# Altium integrated library Renesas Microcontroller R32C.IntLib: 205 symbols (part 2 of 22)
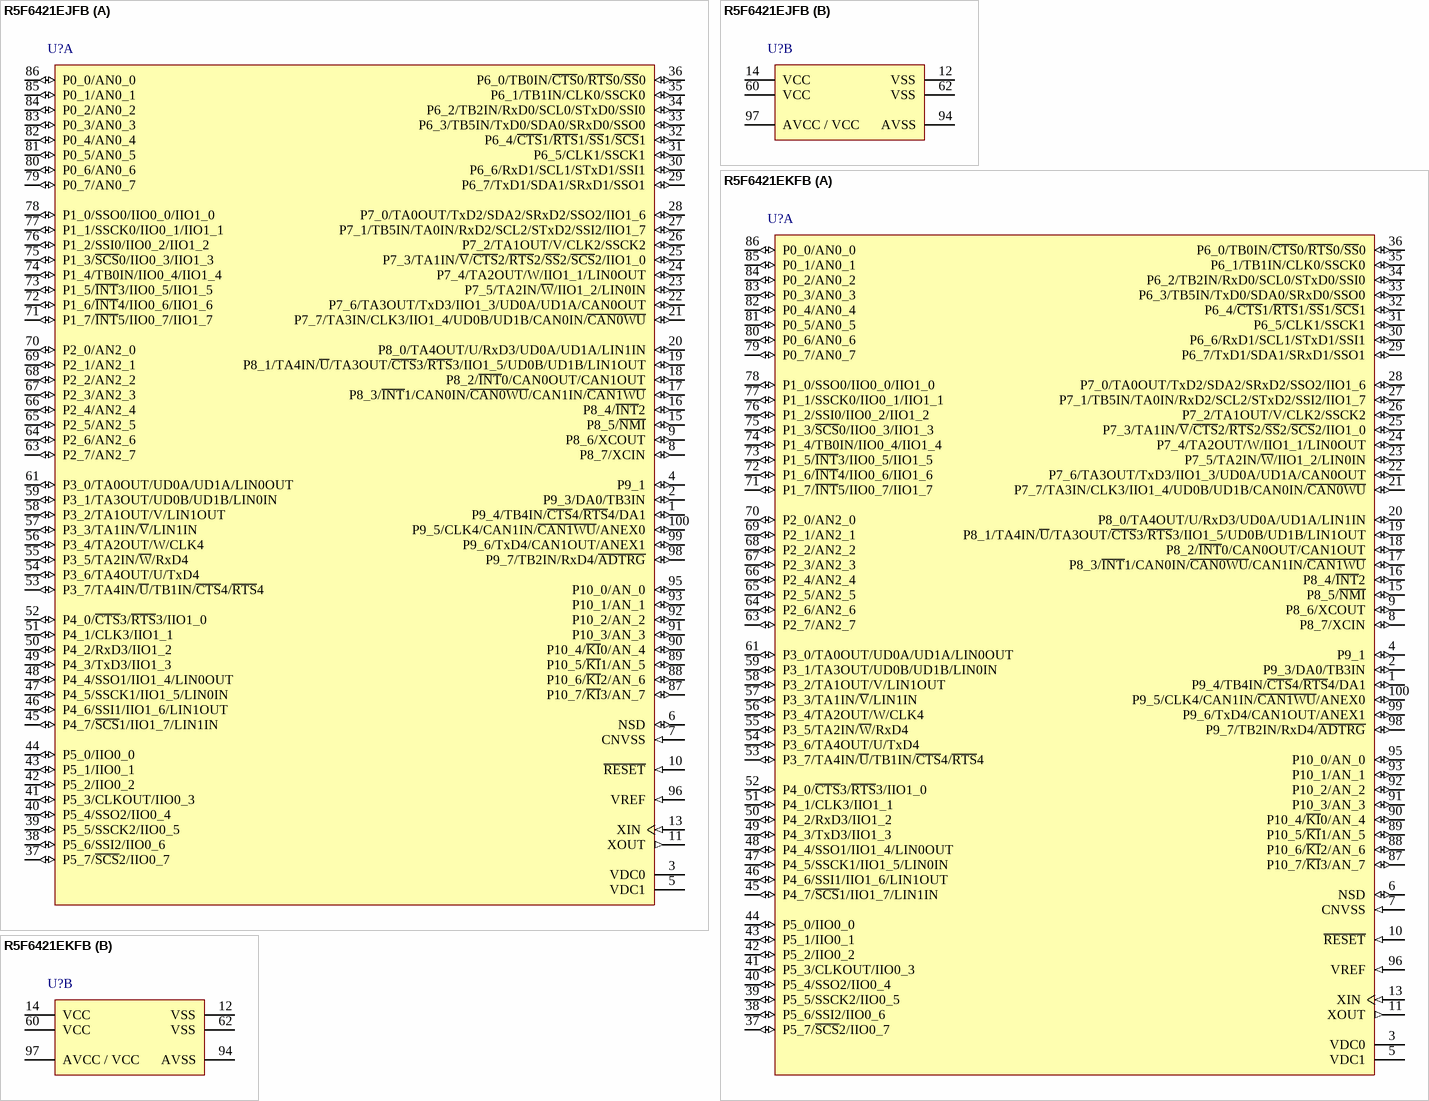
[diagram p140: symbols R5F6421EJFB to R5F6421EKFB]

## R5F6421EKFB
designator U?
Flash Memory R32C/100 Series, 121 Group MCU, 128K + 8K ROM, 12K RAM, 100-pin LQFP, Version K; Published: 28-Aug-2009; DatasheetVersion: Rev.0.50, Jul-2008; PackageVersion: Sep-2005; PackageReference: PLQP0100KB-A; Publisher: Altium Limited; PackageDescription: 100-Pin Plastic Low Profile QFP, 14 x 14 x 1.4 mm Body, 0.5 mm Pitch; Code_JEITA: P-LQFP100-14x14-0.50; Code_IPC: SQFP50P1600X1600-100; ComponentLink1Description: Manufacturer Link; ComponentLink1URL: http://sg.renesas.com/fmwk.jsp?cnt=m16c_family_landing.jsp&fp=/products/mpumcu/m16c_family/; ComponentLink2Description: Datasheet; ComponentLink2URL: http://documentation.renesas.com/eng/products/mpumcu/rej09b0477_r32c121hm.pdf; ComponentLink3Description: Packaging Specification; ComponentLink3URL: http://sg.renesas.com/media/products/common_info/package/pdf/ic/code/plqp0100kb_a.pdf
footprint PLQP0100KB-A_N (Shrink QFP, 100-Leads, Body 14x14mm, Pitch 0.5mm, IPC Medium Density)
footprint PLQP0100KB-A_L (Shrink QFP, 100-Leads, Body 14x14mm, Pitch 0.5mm, IPC High Density)
footprint PLQP0100KB-A_M (Shrink QFP, 100-Leads, Body 14x14mm, Pitch 0.5mm, IPC Low Density)
part A pins: 1 P9_4/TB4IN/~{CTS}4/~{RTS}4/DA1 (io), 2 P9_3/DA0/TB3IN (io), 3 VDC0, 4 P9_1 (io), 5 VDC1, 6 NSD (io), 7 CNVSS (in), 8 P8_7/XCIN (io), 9 P8_6/XCOUT (io), 10 ~{RESET} (in), 11 XOUT (out), 13 XIN (in), 15 P8_5/~{NMI} (io), 16 P8_4/~{INT}2 (io), 17 P8_3/~{INT}1/CAN0IN/~{CAN0WU}/CAN1IN/~{CAN1WU} (io), 18 P8_2/~{INT}0/CAN0OUT/CAN1OUT (io), 19 P8_1/TA4IN/~{U}/TA3OUT/~{CTS}3/~{RTS}3/IIO1_5/UD0B/UD1B/LIN1OUT (io), 20 P8_0/TA4OUT/U/RxD3/UD0A/UD1A/LIN1IN (io), 21 P7_7/TA3IN/CLK3/IIO1_4/UD0B/UD1B/CAN0IN/~{CAN0WU} (io), 22 P7_6/TA3OUT/TxD3/IIO1_3/UD0A/UD1A/CAN0OUT (io), 23 P7_5/TA2IN/~{W}/IIO1_2/LIN0IN (io), 24 P7_4/TA2OUT/W/IIO1_1/LIN0OUT (io), 25 P7_3/TA1IN/~{V}/~{CTS}2/~{RTS}2/~{SS}2/~{SCS}2/IIO1_0 (io), 26 P7_2/TA1OUT/V/CLK2/SSCK2 (io), 27 P7_1/TB5IN/TA0IN/RxD2/SCL2/STxD2/SSI2/IIO1_7 (io), 28 P7_0/TA0OUT/TxD2/SDA2/SRxD2/SSO2/IIO1_6 (io), 29 P6_7/TxD1/SDA1/SRxD1/SSO1 (io), 30 P6_6/RxD1/SCL1/STxD1/SSI1 (io), 31 P6_5/CLK1/SSCK1 (io), 32 P6_4/~{CTS}1/~{RTS}1/~{SS}1/~{SCS}1 (io), 33 P6_3/TB5IN/TxD0/SDA0/SRxD0/SSO0 (io), 34 P6_2/TB2IN/RxD0/SCL0/STxD0/SSI0 (io), 35 P6_1/TB1IN/CLK0/SSCK0 (io), 36 P6_0/TB0IN/~{CTS}0/~{RTS}0/~{SS}0 (io), 37 P5_7/~{SCS}2/IIO0_7 (io), 38 P5_6/SSI2/IIO0_6 (io), 39 P5_5/SSCK2/IIO0_5 (io), 40 P5_4/SSO2/IIO0_4 (io), 41 P5_3/CLKOUT/IIO0_3 (io), 42 P5_2/IIO0_2 (io), 43 P5_1/IIO0_1 (io), 44 P5_0/IIO0_0 (io), 45 P4_7/~{SCS}1/IIO1_7/LIN1IN (io), 46 P4_6/SSI1/IIO1_6/LIN1OUT (io), 47 P4_5/SSCK1/IIO1_5/LIN0IN (io), 48 P4_4/SSO1/IIO1_4/LIN0OUT (io), 49 P4_3/TxD3/IIO1_3 (io), 50 P4_2/RxD3/IIO1_2 (io), 51 P4_1/CLK3/IIO1_1 (io), 52 P4_0/~{CTS}3/~{RTS}3/IIO1_0 (io), 53 P3_7/TA4IN/~{U}/TB1IN/~{CTS}4/~{RTS}4 (io), 54 P3_6/TA4OUT/U/TxD4 (io), 55 P3_5/TA2IN/~{W}/RxD4 (io), 56 P3_4/TA2OUT/W/CLK4 (io), 57 P3_3/TA1IN/~{V}/LIN1IN (io), 58 P3_2/TA1OUT/V/LIN1OUT (io), 59 P3_1/TA3OUT/UD0B/UD1B/LIN0IN (io), 61 P3_0/TA0OUT/UD0A/UD1A/LIN0OUT (io), 63 P2_7/AN2_7 (io), 64 P2_6/AN2_6 (io), 65 P2_5/AN2_5 (io), 66 P2_4/AN2_4 (io), 67 P2_3/AN2_3 (io), 68 P2_2/AN2_2 (io), 69 P2_1/AN2_1 (io), 70 P2_0/AN2_0 (io), 71 P1_7/~{INT}5/IIO0_7/IIO1_7 (io), 72 P1_6/~{INT}4/IIO0_6/IIO1_6 (io), 73 P1_5/~{INT}3/IIO0_5/IIO1_5 (io), 74 P1_4/TB0IN/IIO0_4/IIO1_4 (io), 75 P1_3/~{SCS}0/IIO0_3/IIO1_3 (io), 76 P1_2/SSI0/IIO0_2/IIO1_2 (io), 77 P1_1/SSCK0/IIO0_1/IIO1_1 (io), 78 P1_0/SSO0/IIO0_0/IIO1_0 (io), 79 P0_7/AN0_7 (io), 80 P0_6/AN0_6 (io), 81 P0_5/AN0_5 (io), 82 P0_4/AN0_4 (io), 83 P0_3/AN0_3 (io), 84 P0_2/AN0_2 (io), 85 P0_1/AN0_1 (io), 86 P0_0/AN0_0 (io), 87 P10_7/~{KI}3/AN_7 (io), 88 P10_6/~{KI}2/AN_6 (io), 89 P10_5/~{KI}1/AN_5 (io), 90 P10_4/~{KI}0/AN_4 (io), 91 P10_3/AN_3 (io), 92 P10_2/AN_2 (io), 93 P10_1/AN_1 (io), 95 P10_0/AN_0 (io), 96 VREF (in), 98 P9_7/TB2IN/RxD4/~{ADTRG} (io), 99 P9_6/TxD4/CAN1OUT/ANEX1 (io), 100 P9_5/CLK4/CAN1IN/~{CAN1WU}/ANEX0 (io)
part B pins: 12 VSS (power), 14 VCC (power), 60 VCC (power), 62 VSS (power), 94 AVSS (power), 97 AVCC / VCC (power)

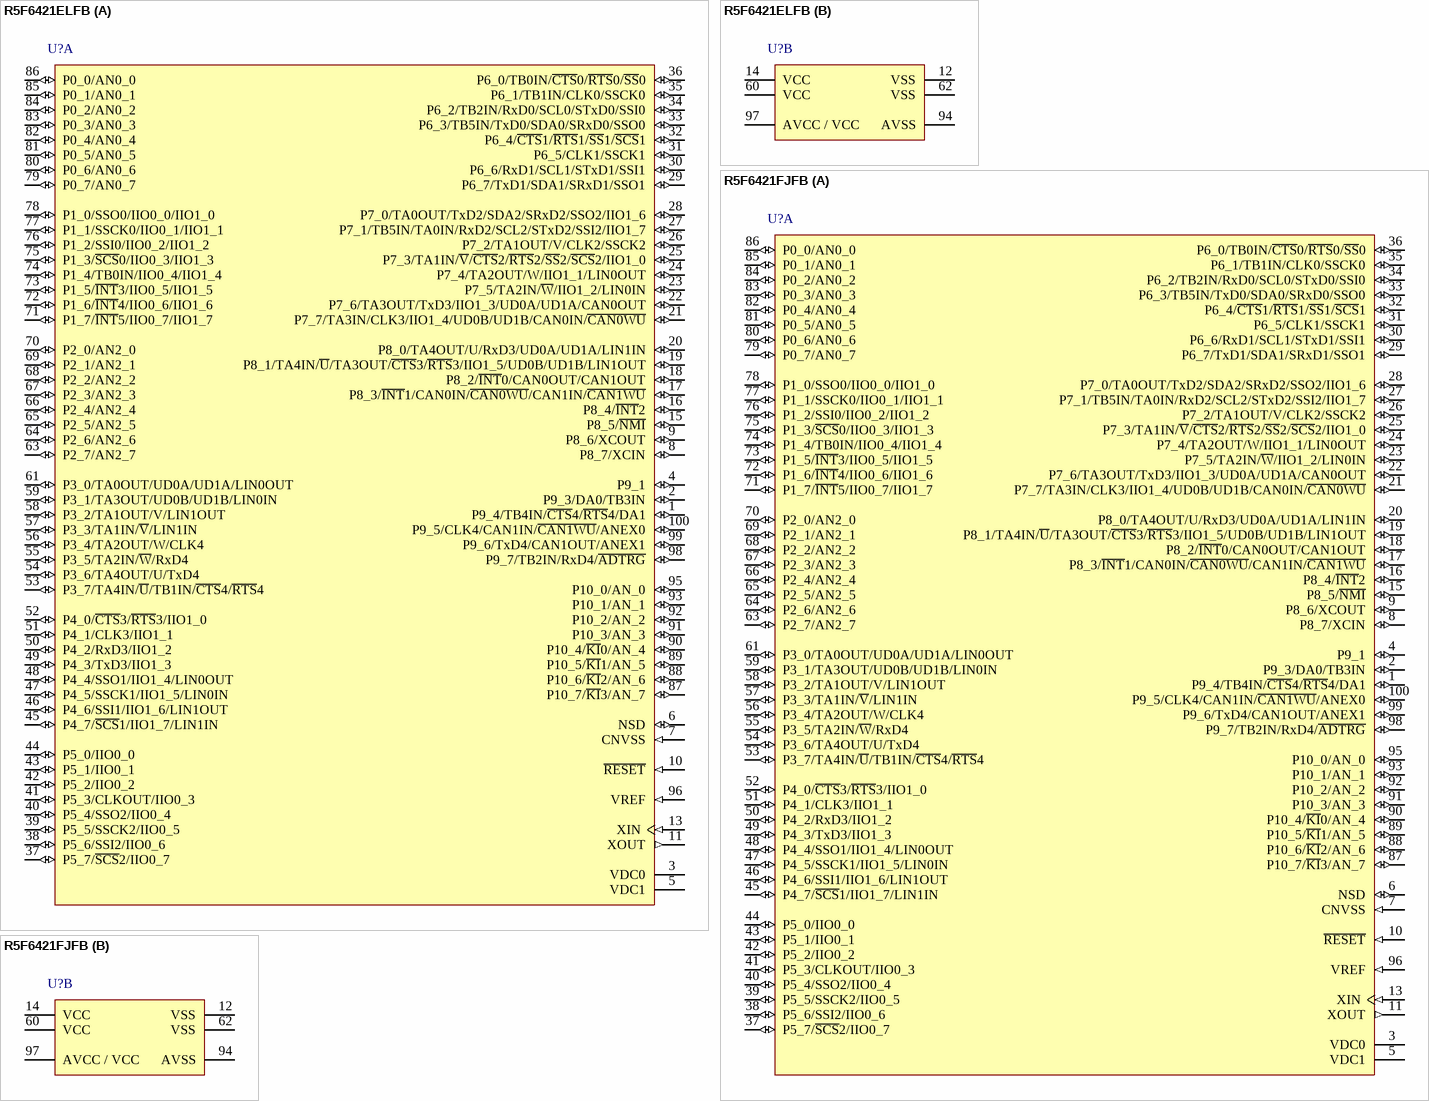
[diagram p8: symbols R5F6421ELFB to R5F6421FJFB]

## R5F6421ELFB
designator U?
Flash Memory R32C/100 Series, 121 Group MCU, 128K + 8K ROM, 12K RAM, 100-pin LQFP, Version L; Published: 28-Aug-2009; DatasheetVersion: Rev.0.50, Jul-2008; PackageVersion: Sep-2005; PackageReference: PLQP0100KB-A; Publisher: Altium Limited; PackageDescription: 100-Pin Plastic Low Profile QFP, 14 x 14 x 1.4 mm Body, 0.5 mm Pitch; Code_JEITA: P-LQFP100-14x14-0.50; Code_IPC: SQFP50P1600X1600-100; ComponentLink1Description: Manufacturer Link; ComponentLink1URL: http://sg.renesas.com/fmwk.jsp?cnt=m16c_family_landing.jsp&fp=/products/mpumcu/m16c_family/; ComponentLink2Description: Datasheet; ComponentLink2URL: http://documentation.renesas.com/eng/products/mpumcu/rej09b0477_r32c121hm.pdf; ComponentLink3Description: Packaging Specification; ComponentLink3URL: http://sg.renesas.com/media/products/common_info/package/pdf/ic/code/plqp0100kb_a.pdf
footprint PLQP0100KB-A_N (Shrink QFP, 100-Leads, Body 14x14mm, Pitch 0.5mm, IPC Medium Density)
footprint PLQP0100KB-A_L (Shrink QFP, 100-Leads, Body 14x14mm, Pitch 0.5mm, IPC High Density)
footprint PLQP0100KB-A_M (Shrink QFP, 100-Leads, Body 14x14mm, Pitch 0.5mm, IPC Low Density)
part A pins: 1 P9_4/TB4IN/~{CTS}4/~{RTS}4/DA1 (io), 2 P9_3/DA0/TB3IN (io), 3 VDC0, 4 P9_1 (io), 5 VDC1, 6 NSD (io), 7 CNVSS (in), 8 P8_7/XCIN (io), 9 P8_6/XCOUT (io), 10 ~{RESET} (in), 11 XOUT (out), 13 XIN (in), 15 P8_5/~{NMI} (io), 16 P8_4/~{INT}2 (io), 17 P8_3/~{INT}1/CAN0IN/~{CAN0WU}/CAN1IN/~{CAN1WU} (io), 18 P8_2/~{INT}0/CAN0OUT/CAN1OUT (io), 19 P8_1/TA4IN/~{U}/TA3OUT/~{CTS}3/~{RTS}3/IIO1_5/UD0B/UD1B/LIN1OUT (io), 20 P8_0/TA4OUT/U/RxD3/UD0A/UD1A/LIN1IN (io), 21 P7_7/TA3IN/CLK3/IIO1_4/UD0B/UD1B/CAN0IN/~{CAN0WU} (io), 22 P7_6/TA3OUT/TxD3/IIO1_3/UD0A/UD1A/CAN0OUT (io), 23 P7_5/TA2IN/~{W}/IIO1_2/LIN0IN (io), 24 P7_4/TA2OUT/W/IIO1_1/LIN0OUT (io), 25 P7_3/TA1IN/~{V}/~{CTS}2/~{RTS}2/~{SS}2/~{SCS}2/IIO1_0 (io), 26 P7_2/TA1OUT/V/CLK2/SSCK2 (io), 27 P7_1/TB5IN/TA0IN/RxD2/SCL2/STxD2/SSI2/IIO1_7 (io), 28 P7_0/TA0OUT/TxD2/SDA2/SRxD2/SSO2/IIO1_6 (io), 29 P6_7/TxD1/SDA1/SRxD1/SSO1 (io), 30 P6_6/RxD1/SCL1/STxD1/SSI1 (io), 31 P6_5/CLK1/SSCK1 (io), 32 P6_4/~{CTS}1/~{RTS}1/~{SS}1/~{SCS}1 (io), 33 P6_3/TB5IN/TxD0/SDA0/SRxD0/SSO0 (io), 34 P6_2/TB2IN/RxD0/SCL0/STxD0/SSI0 (io), 35 P6_1/TB1IN/CLK0/SSCK0 (io), 36 P6_0/TB0IN/~{CTS}0/~{RTS}0/~{SS}0 (io), 37 P5_7/~{SCS}2/IIO0_7 (io), 38 P5_6/SSI2/IIO0_6 (io), 39 P5_5/SSCK2/IIO0_5 (io), 40 P5_4/SSO2/IIO0_4 (io), 41 P5_3/CLKOUT/IIO0_3 (io), 42 P5_2/IIO0_2 (io), 43 P5_1/IIO0_1 (io), 44 P5_0/IIO0_0 (io), 45 P4_7/~{SCS}1/IIO1_7/LIN1IN (io), 46 P4_6/SSI1/IIO1_6/LIN1OUT (io), 47 P4_5/SSCK1/IIO1_5/LIN0IN (io), 48 P4_4/SSO1/IIO1_4/LIN0OUT (io), 49 P4_3/TxD3/IIO1_3 (io), 50 P4_2/RxD3/IIO1_2 (io), 51 P4_1/CLK3/IIO1_1 (io), 52 P4_0/~{CTS}3/~{RTS}3/IIO1_0 (io), 53 P3_7/TA4IN/~{U}/TB1IN/~{CTS}4/~{RTS}4 (io), 54 P3_6/TA4OUT/U/TxD4 (io), 55 P3_5/TA2IN/~{W}/RxD4 (io), 56 P3_4/TA2OUT/W/CLK4 (io), 57 P3_3/TA1IN/~{V}/LIN1IN (io), 58 P3_2/TA1OUT/V/LIN1OUT (io), 59 P3_1/TA3OUT/UD0B/UD1B/LIN0IN (io), 61 P3_0/TA0OUT/UD0A/UD1A/LIN0OUT (io), 63 P2_7/AN2_7 (io), 64 P2_6/AN2_6 (io), 65 P2_5/AN2_5 (io), 66 P2_4/AN2_4 (io), 67 P2_3/AN2_3 (io), 68 P2_2/AN2_2 (io), 69 P2_1/AN2_1 (io), 70 P2_0/AN2_0 (io), 71 P1_7/~{INT}5/IIO0_7/IIO1_7 (io), 72 P1_6/~{INT}4/IIO0_6/IIO1_6 (io), 73 P1_5/~{INT}3/IIO0_5/IIO1_5 (io), 74 P1_4/TB0IN/IIO0_4/IIO1_4 (io), 75 P1_3/~{SCS}0/IIO0_3/IIO1_3 (io), 76 P1_2/SSI0/IIO0_2/IIO1_2 (io), 77 P1_1/SSCK0/IIO0_1/IIO1_1 (io), 78 P1_0/SSO0/IIO0_0/IIO1_0 (io), 79 P0_7/AN0_7 (io), 80 P0_6/AN0_6 (io), 81 P0_5/AN0_5 (io), 82 P0_4/AN0_4 (io), 83 P0_3/AN0_3 (io), 84 P0_2/AN0_2 (io), 85 P0_1/AN0_1 (io), 86 P0_0/AN0_0 (io), 87 P10_7/~{KI}3/AN_7 (io), 88 P10_6/~{KI}2/AN_6 (io), 89 P10_5/~{KI}1/AN_5 (io), 90 P10_4/~{KI}0/AN_4 (io), 91 P10_3/AN_3 (io), 92 P10_2/AN_2 (io), 93 P10_1/AN_1 (io), 95 P10_0/AN_0 (io), 96 VREF (in), 98 P9_7/TB2IN/RxD4/~{ADTRG} (io), 99 P9_6/TxD4/CAN1OUT/ANEX1 (io), 100 P9_5/CLK4/CAN1IN/~{CAN1WU}/ANEX0 (io)
part B pins: 12 VSS (power), 14 VCC (power), 60 VCC (power), 62 VSS (power), 94 AVSS (power), 97 AVCC / VCC (power)

## R5F6421FJFB
designator U?
Flash Memory R32C/100 Series, 121 Group MCU, 256K + 8K ROM, 20K RAM, 100-pin LQFP, Version J; Published: 28-Aug-2009; DatasheetVersion: Rev.0.50, Jul-2008; PackageVersion: Sep-2005; PackageReference: PLQP0100KB-A; Publisher: Altium Limited; PackageDescription: 100-Pin Plastic Low Profile QFP, 14 x 14 x 1.4 mm Body, 0.5 mm Pitch; Code_JEITA: P-LQFP100-14x14-0.50; Code_IPC: SQFP50P1600X1600-100; ComponentLink1Description: Manufacturer Link; ComponentLink1URL: http://sg.renesas.com/fmwk.jsp?cnt=m16c_family_landing.jsp&fp=/products/mpumcu/m16c_family/; ComponentLink2Description: Datasheet; ComponentLink2URL: http://documentation.renesas.com/eng/products/mpumcu/rej09b0477_r32c121hm.pdf; ComponentLink3Description: Packaging Specification; ComponentLink3URL: http://sg.renesas.com/media/products/common_info/package/pdf/ic/code/plqp0100kb_a.pdf
footprint PLQP0100KB-A_N (Shrink QFP, 100-Leads, Body 14x14mm, Pitch 0.5mm, IPC Medium Density)
footprint PLQP0100KB-A_L (Shrink QFP, 100-Leads, Body 14x14mm, Pitch 0.5mm, IPC High Density)
footprint PLQP0100KB-A_M (Shrink QFP, 100-Leads, Body 14x14mm, Pitch 0.5mm, IPC Low Density)
part A pins: 1 P9_4/TB4IN/~{CTS}4/~{RTS}4/DA1 (io), 2 P9_3/DA0/TB3IN (io), 3 VDC0, 4 P9_1 (io), 5 VDC1, 6 NSD (io), 7 CNVSS (in), 8 P8_7/XCIN (io), 9 P8_6/XCOUT (io), 10 ~{RESET} (in), 11 XOUT (out), 13 XIN (in), 15 P8_5/~{NMI} (io), 16 P8_4/~{INT}2 (io), 17 P8_3/~{INT}1/CAN0IN/~{CAN0WU}/CAN1IN/~{CAN1WU} (io), 18 P8_2/~{INT}0/CAN0OUT/CAN1OUT (io), 19 P8_1/TA4IN/~{U}/TA3OUT/~{CTS}3/~{RTS}3/IIO1_5/UD0B/UD1B/LIN1OUT (io), 20 P8_0/TA4OUT/U/RxD3/UD0A/UD1A/LIN1IN (io), 21 P7_7/TA3IN/CLK3/IIO1_4/UD0B/UD1B/CAN0IN/~{CAN0WU} (io), 22 P7_6/TA3OUT/TxD3/IIO1_3/UD0A/UD1A/CAN0OUT (io), 23 P7_5/TA2IN/~{W}/IIO1_2/LIN0IN (io), 24 P7_4/TA2OUT/W/IIO1_1/LIN0OUT (io), 25 P7_3/TA1IN/~{V}/~{CTS}2/~{RTS}2/~{SS}2/~{SCS}2/IIO1_0 (io), 26 P7_2/TA1OUT/V/CLK2/SSCK2 (io), 27 P7_1/TB5IN/TA0IN/RxD2/SCL2/STxD2/SSI2/IIO1_7 (io), 28 P7_0/TA0OUT/TxD2/SDA2/SRxD2/SSO2/IIO1_6 (io), 29 P6_7/TxD1/SDA1/SRxD1/SSO1 (io), 30 P6_6/RxD1/SCL1/STxD1/SSI1 (io), 31 P6_5/CLK1/SSCK1 (io), 32 P6_4/~{CTS}1/~{RTS}1/~{SS}1/~{SCS}1 (io), 33 P6_3/TB5IN/TxD0/SDA0/SRxD0/SSO0 (io), 34 P6_2/TB2IN/RxD0/SCL0/STxD0/SSI0 (io), 35 P6_1/TB1IN/CLK0/SSCK0 (io), 36 P6_0/TB0IN/~{CTS}0/~{RTS}0/~{SS}0 (io), 37 P5_7/~{SCS}2/IIO0_7 (io), 38 P5_6/SSI2/IIO0_6 (io), 39 P5_5/SSCK2/IIO0_5 (io), 40 P5_4/SSO2/IIO0_4 (io), 41 P5_3/CLKOUT/IIO0_3 (io), 42 P5_2/IIO0_2 (io), 43 P5_1/IIO0_1 (io), 44 P5_0/IIO0_0 (io), 45 P4_7/~{SCS}1/IIO1_7/LIN1IN (io), 46 P4_6/SSI1/IIO1_6/LIN1OUT (io), 47 P4_5/SSCK1/IIO1_5/LIN0IN (io), 48 P4_4/SSO1/IIO1_4/LIN0OUT (io), 49 P4_3/TxD3/IIO1_3 (io), 50 P4_2/RxD3/IIO1_2 (io), 51 P4_1/CLK3/IIO1_1 (io), 52 P4_0/~{CTS}3/~{RTS}3/IIO1_0 (io), 53 P3_7/TA4IN/~{U}/TB1IN/~{CTS}4/~{RTS}4 (io), 54 P3_6/TA4OUT/U/TxD4 (io), 55 P3_5/TA2IN/~{W}/RxD4 (io), 56 P3_4/TA2OUT/W/CLK4 (io), 57 P3_3/TA1IN/~{V}/LIN1IN (io), 58 P3_2/TA1OUT/V/LIN1OUT (io), 59 P3_1/TA3OUT/UD0B/UD1B/LIN0IN (io), 61 P3_0/TA0OUT/UD0A/UD1A/LIN0OUT (io), 63 P2_7/AN2_7 (io), 64 P2_6/AN2_6 (io), 65 P2_5/AN2_5 (io), 66 P2_4/AN2_4 (io), 67 P2_3/AN2_3 (io), 68 P2_2/AN2_2 (io), 69 P2_1/AN2_1 (io), 70 P2_0/AN2_0 (io), 71 P1_7/~{INT}5/IIO0_7/IIO1_7 (io), 72 P1_6/~{INT}4/IIO0_6/IIO1_6 (io), 73 P1_5/~{INT}3/IIO0_5/IIO1_5 (io), 74 P1_4/TB0IN/IIO0_4/IIO1_4 (io), 75 P1_3/~{SCS}0/IIO0_3/IIO1_3 (io), 76 P1_2/SSI0/IIO0_2/IIO1_2 (io), 77 P1_1/SSCK0/IIO0_1/IIO1_1 (io), 78 P1_0/SSO0/IIO0_0/IIO1_0 (io), 79 P0_7/AN0_7 (io), 80 P0_6/AN0_6 (io), 81 P0_5/AN0_5 (io), 82 P0_4/AN0_4 (io), 83 P0_3/AN0_3 (io), 84 P0_2/AN0_2 (io), 85 P0_1/AN0_1 (io), 86 P0_0/AN0_0 (io), 87 P10_7/~{KI}3/AN_7 (io), 88 P10_6/~{KI}2/AN_6 (io), 89 P10_5/~{KI}1/AN_5 (io), 90 P10_4/~{KI}0/AN_4 (io), 91 P10_3/AN_3 (io), 92 P10_2/AN_2 (io), 93 P10_1/AN_1 (io), 95 P10_0/AN_0 (io), 96 VREF (in), 98 P9_7/TB2IN/RxD4/~{ADTRG} (io), 99 P9_6/TxD4/CAN1OUT/ANEX1 (io), 100 P9_5/CLK4/CAN1IN/~{CAN1WU}/ANEX0 (io)
part B pins: 12 VSS (power), 14 VCC (power), 60 VCC (power), 62 VSS (power), 94 AVSS (power), 97 AVCC / VCC (power)

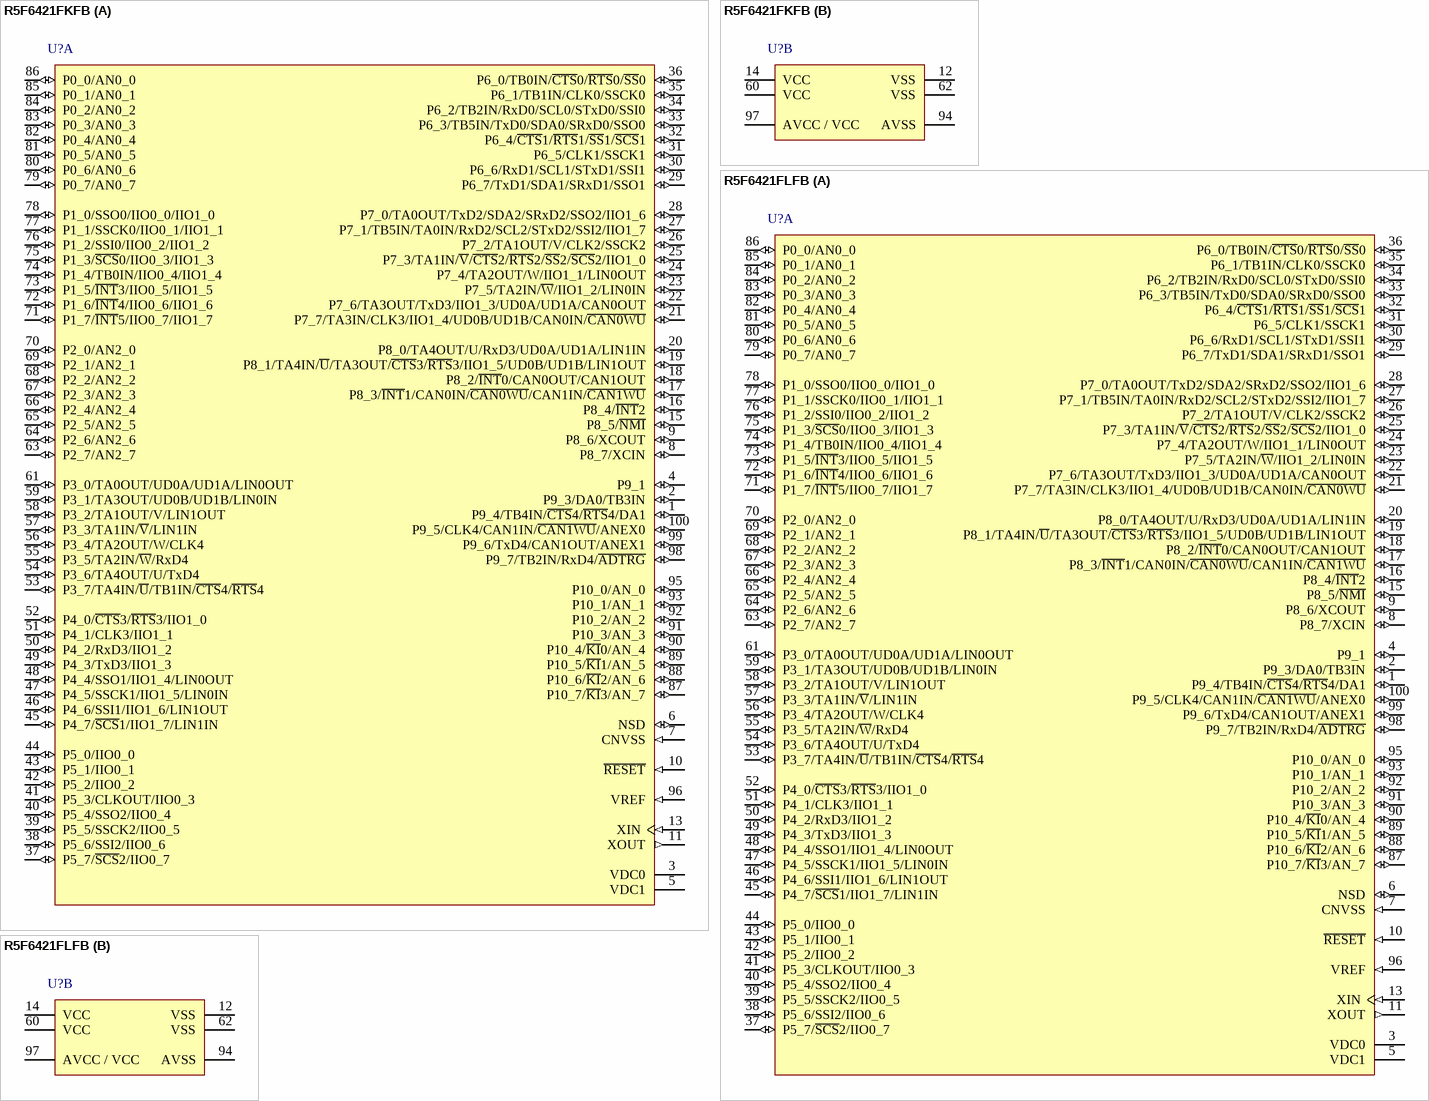
[diagram p9: symbols R5F6421FKFB to R5F6421FLFB]

## R5F6421FKFB
designator U?
Flash Memory R32C/100 Series, 121 Group MCU, 256K + 8K ROM, 20K RAM, 100-pin LQFP, Version K; Published: 28-Aug-2009; DatasheetVersion: Rev.0.50, Jul-2008; PackageVersion: Sep-2005; PackageReference: PLQP0100KB-A; Publisher: Altium Limited; PackageDescription: 100-Pin Plastic Low Profile QFP, 14 x 14 x 1.4 mm Body, 0.5 mm Pitch; Code_JEITA: P-LQFP100-14x14-0.50; Code_IPC: SQFP50P1600X1600-100; ComponentLink1Description: Manufacturer Link; ComponentLink1URL: http://sg.renesas.com/fmwk.jsp?cnt=m16c_family_landing.jsp&fp=/products/mpumcu/m16c_family/; ComponentLink2Description: Datasheet; ComponentLink2URL: http://documentation.renesas.com/eng/products/mpumcu/rej09b0477_r32c121hm.pdf; ComponentLink3Description: Packaging Specification; ComponentLink3URL: http://sg.renesas.com/media/products/common_info/package/pdf/ic/code/plqp0100kb_a.pdf
footprint PLQP0100KB-A_N (Shrink QFP, 100-Leads, Body 14x14mm, Pitch 0.5mm, IPC Medium Density)
footprint PLQP0100KB-A_L (Shrink QFP, 100-Leads, Body 14x14mm, Pitch 0.5mm, IPC High Density)
footprint PLQP0100KB-A_M (Shrink QFP, 100-Leads, Body 14x14mm, Pitch 0.5mm, IPC Low Density)
part A pins: 1 P9_4/TB4IN/~{CTS}4/~{RTS}4/DA1 (io), 2 P9_3/DA0/TB3IN (io), 3 VDC0, 4 P9_1 (io), 5 VDC1, 6 NSD (io), 7 CNVSS (in), 8 P8_7/XCIN (io), 9 P8_6/XCOUT (io), 10 ~{RESET} (in), 11 XOUT (out), 13 XIN (in), 15 P8_5/~{NMI} (io), 16 P8_4/~{INT}2 (io), 17 P8_3/~{INT}1/CAN0IN/~{CAN0WU}/CAN1IN/~{CAN1WU} (io), 18 P8_2/~{INT}0/CAN0OUT/CAN1OUT (io), 19 P8_1/TA4IN/~{U}/TA3OUT/~{CTS}3/~{RTS}3/IIO1_5/UD0B/UD1B/LIN1OUT (io), 20 P8_0/TA4OUT/U/RxD3/UD0A/UD1A/LIN1IN (io), 21 P7_7/TA3IN/CLK3/IIO1_4/UD0B/UD1B/CAN0IN/~{CAN0WU} (io), 22 P7_6/TA3OUT/TxD3/IIO1_3/UD0A/UD1A/CAN0OUT (io), 23 P7_5/TA2IN/~{W}/IIO1_2/LIN0IN (io), 24 P7_4/TA2OUT/W/IIO1_1/LIN0OUT (io), 25 P7_3/TA1IN/~{V}/~{CTS}2/~{RTS}2/~{SS}2/~{SCS}2/IIO1_0 (io), 26 P7_2/TA1OUT/V/CLK2/SSCK2 (io), 27 P7_1/TB5IN/TA0IN/RxD2/SCL2/STxD2/SSI2/IIO1_7 (io), 28 P7_0/TA0OUT/TxD2/SDA2/SRxD2/SSO2/IIO1_6 (io), 29 P6_7/TxD1/SDA1/SRxD1/SSO1 (io), 30 P6_6/RxD1/SCL1/STxD1/SSI1 (io), 31 P6_5/CLK1/SSCK1 (io), 32 P6_4/~{CTS}1/~{RTS}1/~{SS}1/~{SCS}1 (io), 33 P6_3/TB5IN/TxD0/SDA0/SRxD0/SSO0 (io), 34 P6_2/TB2IN/RxD0/SCL0/STxD0/SSI0 (io), 35 P6_1/TB1IN/CLK0/SSCK0 (io), 36 P6_0/TB0IN/~{CTS}0/~{RTS}0/~{SS}0 (io), 37 P5_7/~{SCS}2/IIO0_7 (io), 38 P5_6/SSI2/IIO0_6 (io), 39 P5_5/SSCK2/IIO0_5 (io), 40 P5_4/SSO2/IIO0_4 (io), 41 P5_3/CLKOUT/IIO0_3 (io), 42 P5_2/IIO0_2 (io), 43 P5_1/IIO0_1 (io), 44 P5_0/IIO0_0 (io), 45 P4_7/~{SCS}1/IIO1_7/LIN1IN (io), 46 P4_6/SSI1/IIO1_6/LIN1OUT (io), 47 P4_5/SSCK1/IIO1_5/LIN0IN (io), 48 P4_4/SSO1/IIO1_4/LIN0OUT (io), 49 P4_3/TxD3/IIO1_3 (io), 50 P4_2/RxD3/IIO1_2 (io), 51 P4_1/CLK3/IIO1_1 (io), 52 P4_0/~{CTS}3/~{RTS}3/IIO1_0 (io), 53 P3_7/TA4IN/~{U}/TB1IN/~{CTS}4/~{RTS}4 (io), 54 P3_6/TA4OUT/U/TxD4 (io), 55 P3_5/TA2IN/~{W}/RxD4 (io), 56 P3_4/TA2OUT/W/CLK4 (io), 57 P3_3/TA1IN/~{V}/LIN1IN (io), 58 P3_2/TA1OUT/V/LIN1OUT (io), 59 P3_1/TA3OUT/UD0B/UD1B/LIN0IN (io), 61 P3_0/TA0OUT/UD0A/UD1A/LIN0OUT (io), 63 P2_7/AN2_7 (io), 64 P2_6/AN2_6 (io), 65 P2_5/AN2_5 (io), 66 P2_4/AN2_4 (io), 67 P2_3/AN2_3 (io), 68 P2_2/AN2_2 (io), 69 P2_1/AN2_1 (io), 70 P2_0/AN2_0 (io), 71 P1_7/~{INT}5/IIO0_7/IIO1_7 (io), 72 P1_6/~{INT}4/IIO0_6/IIO1_6 (io), 73 P1_5/~{INT}3/IIO0_5/IIO1_5 (io), 74 P1_4/TB0IN/IIO0_4/IIO1_4 (io), 75 P1_3/~{SCS}0/IIO0_3/IIO1_3 (io), 76 P1_2/SSI0/IIO0_2/IIO1_2 (io), 77 P1_1/SSCK0/IIO0_1/IIO1_1 (io), 78 P1_0/SSO0/IIO0_0/IIO1_0 (io), 79 P0_7/AN0_7 (io), 80 P0_6/AN0_6 (io), 81 P0_5/AN0_5 (io), 82 P0_4/AN0_4 (io), 83 P0_3/AN0_3 (io), 84 P0_2/AN0_2 (io), 85 P0_1/AN0_1 (io), 86 P0_0/AN0_0 (io), 87 P10_7/~{KI}3/AN_7 (io), 88 P10_6/~{KI}2/AN_6 (io), 89 P10_5/~{KI}1/AN_5 (io), 90 P10_4/~{KI}0/AN_4 (io), 91 P10_3/AN_3 (io), 92 P10_2/AN_2 (io), 93 P10_1/AN_1 (io), 95 P10_0/AN_0 (io), 96 VREF (in), 98 P9_7/TB2IN/RxD4/~{ADTRG} (io), 99 P9_6/TxD4/CAN1OUT/ANEX1 (io), 100 P9_5/CLK4/CAN1IN/~{CAN1WU}/ANEX0 (io)
part B pins: 12 VSS (power), 14 VCC (power), 60 VCC (power), 62 VSS (power), 94 AVSS (power), 97 AVCC / VCC (power)

## R5F6421FLFB
designator U?
Flash Memory R32C/100 Series, 121 Group MCU, 256K + 8K ROM, 20K RAM, 100-pin LQFP, Version L; Published: 28-Aug-2009; DatasheetVersion: Rev.0.50, Jul-2008; PackageVersion: Sep-2005; PackageReference: PLQP0100KB-A; Publisher: Altium Limited; PackageDescription: 100-Pin Plastic Low Profile QFP, 14 x 14 x 1.4 mm Body, 0.5 mm Pitch; Code_JEITA: P-LQFP100-14x14-0.50; Code_IPC: SQFP50P1600X1600-100; ComponentLink1Description: Manufacturer Link; ComponentLink1URL: http://sg.renesas.com/fmwk.jsp?cnt=m16c_family_landing.jsp&fp=/products/mpumcu/m16c_family/; ComponentLink2Description: Datasheet; ComponentLink2URL: http://documentation.renesas.com/eng/products/mpumcu/rej09b0477_r32c121hm.pdf; ComponentLink3Description: Packaging Specification; ComponentLink3URL: http://sg.renesas.com/media/products/common_info/package/pdf/ic/code/plqp0100kb_a.pdf
footprint PLQP0100KB-A_N (Shrink QFP, 100-Leads, Body 14x14mm, Pitch 0.5mm, IPC Medium Density)
footprint PLQP0100KB-A_L (Shrink QFP, 100-Leads, Body 14x14mm, Pitch 0.5mm, IPC High Density)
footprint PLQP0100KB-A_M (Shrink QFP, 100-Leads, Body 14x14mm, Pitch 0.5mm, IPC Low Density)
part A pins: 1 P9_4/TB4IN/~{CTS}4/~{RTS}4/DA1 (io), 2 P9_3/DA0/TB3IN (io), 3 VDC0, 4 P9_1 (io), 5 VDC1, 6 NSD (io), 7 CNVSS (in), 8 P8_7/XCIN (io), 9 P8_6/XCOUT (io), 10 ~{RESET} (in), 11 XOUT (out), 13 XIN (in), 15 P8_5/~{NMI} (io), 16 P8_4/~{INT}2 (io), 17 P8_3/~{INT}1/CAN0IN/~{CAN0WU}/CAN1IN/~{CAN1WU} (io), 18 P8_2/~{INT}0/CAN0OUT/CAN1OUT (io), 19 P8_1/TA4IN/~{U}/TA3OUT/~{CTS}3/~{RTS}3/IIO1_5/UD0B/UD1B/LIN1OUT (io), 20 P8_0/TA4OUT/U/RxD3/UD0A/UD1A/LIN1IN (io), 21 P7_7/TA3IN/CLK3/IIO1_4/UD0B/UD1B/CAN0IN/~{CAN0WU} (io), 22 P7_6/TA3OUT/TxD3/IIO1_3/UD0A/UD1A/CAN0OUT (io), 23 P7_5/TA2IN/~{W}/IIO1_2/LIN0IN (io), 24 P7_4/TA2OUT/W/IIO1_1/LIN0OUT (io), 25 P7_3/TA1IN/~{V}/~{CTS}2/~{RTS}2/~{SS}2/~{SCS}2/IIO1_0 (io), 26 P7_2/TA1OUT/V/CLK2/SSCK2 (io), 27 P7_1/TB5IN/TA0IN/RxD2/SCL2/STxD2/SSI2/IIO1_7 (io), 28 P7_0/TA0OUT/TxD2/SDA2/SRxD2/SSO2/IIO1_6 (io), 29 P6_7/TxD1/SDA1/SRxD1/SSO1 (io), 30 P6_6/RxD1/SCL1/STxD1/SSI1 (io), 31 P6_5/CLK1/SSCK1 (io), 32 P6_4/~{CTS}1/~{RTS}1/~{SS}1/~{SCS}1 (io), 33 P6_3/TB5IN/TxD0/SDA0/SRxD0/SSO0 (io), 34 P6_2/TB2IN/RxD0/SCL0/STxD0/SSI0 (io), 35 P6_1/TB1IN/CLK0/SSCK0 (io), 36 P6_0/TB0IN/~{CTS}0/~{RTS}0/~{SS}0 (io), 37 P5_7/~{SCS}2/IIO0_7 (io), 38 P5_6/SSI2/IIO0_6 (io), 39 P5_5/SSCK2/IIO0_5 (io), 40 P5_4/SSO2/IIO0_4 (io), 41 P5_3/CLKOUT/IIO0_3 (io), 42 P5_2/IIO0_2 (io), 43 P5_1/IIO0_1 (io), 44 P5_0/IIO0_0 (io), 45 P4_7/~{SCS}1/IIO1_7/LIN1IN (io), 46 P4_6/SSI1/IIO1_6/LIN1OUT (io), 47 P4_5/SSCK1/IIO1_5/LIN0IN (io), 48 P4_4/SSO1/IIO1_4/LIN0OUT (io), 49 P4_3/TxD3/IIO1_3 (io), 50 P4_2/RxD3/IIO1_2 (io), 51 P4_1/CLK3/IIO1_1 (io), 52 P4_0/~{CTS}3/~{RTS}3/IIO1_0 (io), 53 P3_7/TA4IN/~{U}/TB1IN/~{CTS}4/~{RTS}4 (io), 54 P3_6/TA4OUT/U/TxD4 (io), 55 P3_5/TA2IN/~{W}/RxD4 (io), 56 P3_4/TA2OUT/W/CLK4 (io), 57 P3_3/TA1IN/~{V}/LIN1IN (io), 58 P3_2/TA1OUT/V/LIN1OUT (io), 59 P3_1/TA3OUT/UD0B/UD1B/LIN0IN (io), 61 P3_0/TA0OUT/UD0A/UD1A/LIN0OUT (io), 63 P2_7/AN2_7 (io), 64 P2_6/AN2_6 (io), 65 P2_5/AN2_5 (io), 66 P2_4/AN2_4 (io), 67 P2_3/AN2_3 (io), 68 P2_2/AN2_2 (io), 69 P2_1/AN2_1 (io), 70 P2_0/AN2_0 (io), 71 P1_7/~{INT}5/IIO0_7/IIO1_7 (io), 72 P1_6/~{INT}4/IIO0_6/IIO1_6 (io), 73 P1_5/~{INT}3/IIO0_5/IIO1_5 (io), 74 P1_4/TB0IN/IIO0_4/IIO1_4 (io), 75 P1_3/~{SCS}0/IIO0_3/IIO1_3 (io), 76 P1_2/SSI0/IIO0_2/IIO1_2 (io), 77 P1_1/SSCK0/IIO0_1/IIO1_1 (io), 78 P1_0/SSO0/IIO0_0/IIO1_0 (io), 79 P0_7/AN0_7 (io), 80 P0_6/AN0_6 (io), 81 P0_5/AN0_5 (io), 82 P0_4/AN0_4 (io), 83 P0_3/AN0_3 (io), 84 P0_2/AN0_2 (io), 85 P0_1/AN0_1 (io), 86 P0_0/AN0_0 (io), 87 P10_7/~{KI}3/AN_7 (io), 88 P10_6/~{KI}2/AN_6 (io), 89 P10_5/~{KI}1/AN_5 (io), 90 P10_4/~{KI}0/AN_4 (io), 91 P10_3/AN_3 (io), 92 P10_2/AN_2 (io), 93 P10_1/AN_1 (io), 95 P10_0/AN_0 (io), 96 VREF (in), 98 P9_7/TB2IN/RxD4/~{ADTRG} (io), 99 P9_6/TxD4/CAN1OUT/ANEX1 (io), 100 P9_5/CLK4/CAN1IN/~{CAN1WU}/ANEX0 (io)
part B pins: 12 VSS (power), 14 VCC (power), 60 VCC (power), 62 VSS (power), 94 AVSS (power), 97 AVCC / VCC (power)

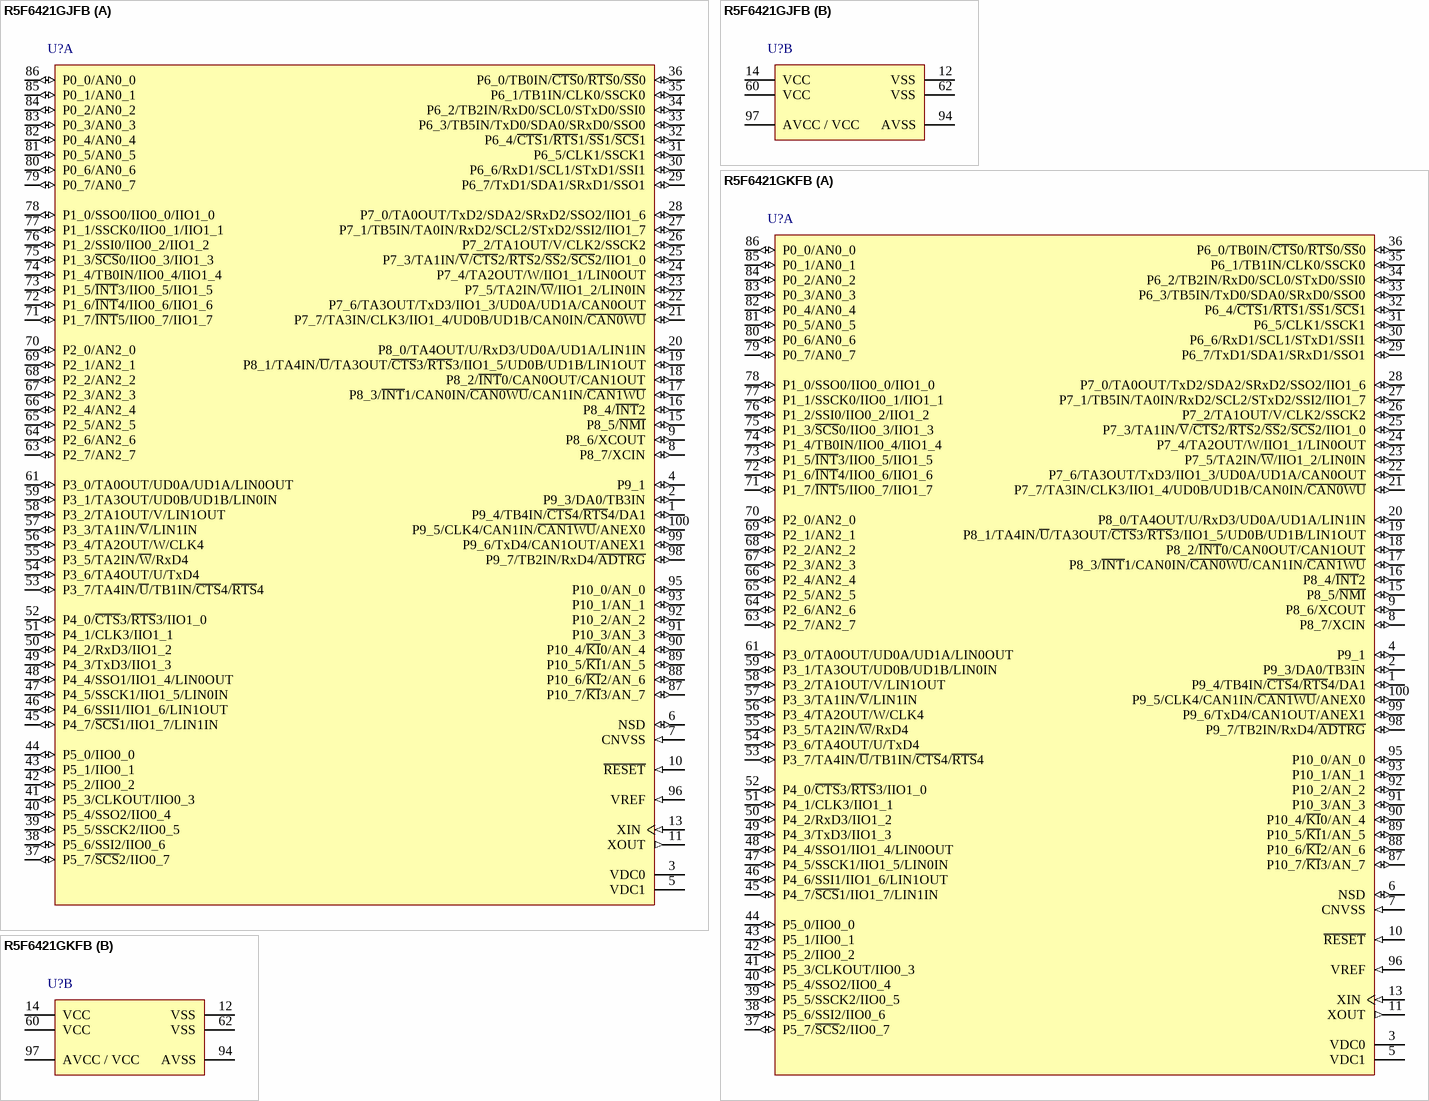
[diagram p10: symbols R5F6421GJFB to R5F6421GKFB]

## R5F6421GJFB
designator U?
Flash Memory R32C/100 Series, 121 Group MCU, 384K + 8K ROM, 24K RAM, 100-pin LQFP, Version J; Published: 28-Aug-2009; DatasheetVersion: Rev.0.50, Jul-2008; PackageVersion: Sep-2005; PackageReference: PLQP0100KB-A; Publisher: Altium Limited; PackageDescription: 100-Pin Plastic Low Profile QFP, 14 x 14 x 1.4 mm Body, 0.5 mm Pitch; Code_JEITA: P-LQFP100-14x14-0.50; Code_IPC: SQFP50P1600X1600-100; ComponentLink1Description: Manufacturer Link; ComponentLink1URL: http://sg.renesas.com/fmwk.jsp?cnt=m16c_family_landing.jsp&fp=/products/mpumcu/m16c_family/; ComponentLink2Description: Datasheet; ComponentLink2URL: http://documentation.renesas.com/eng/products/mpumcu/rej09b0477_r32c121hm.pdf; ComponentLink3Description: Packaging Specification; ComponentLink3URL: http://sg.renesas.com/media/products/common_info/package/pdf/ic/code/plqp0100kb_a.pdf
footprint PLQP0100KB-A_N (Shrink QFP, 100-Leads, Body 14x14mm, Pitch 0.5mm, IPC Medium Density)
footprint PLQP0100KB-A_L (Shrink QFP, 100-Leads, Body 14x14mm, Pitch 0.5mm, IPC High Density)
footprint PLQP0100KB-A_M (Shrink QFP, 100-Leads, Body 14x14mm, Pitch 0.5mm, IPC Low Density)
part A pins: 1 P9_4/TB4IN/~{CTS}4/~{RTS}4/DA1 (io), 2 P9_3/DA0/TB3IN (io), 3 VDC0, 4 P9_1 (io), 5 VDC1, 6 NSD (io), 7 CNVSS (in), 8 P8_7/XCIN (io), 9 P8_6/XCOUT (io), 10 ~{RESET} (in), 11 XOUT (out), 13 XIN (in), 15 P8_5/~{NMI} (io), 16 P8_4/~{INT}2 (io), 17 P8_3/~{INT}1/CAN0IN/~{CAN0WU}/CAN1IN/~{CAN1WU} (io), 18 P8_2/~{INT}0/CAN0OUT/CAN1OUT (io), 19 P8_1/TA4IN/~{U}/TA3OUT/~{CTS}3/~{RTS}3/IIO1_5/UD0B/UD1B/LIN1OUT (io), 20 P8_0/TA4OUT/U/RxD3/UD0A/UD1A/LIN1IN (io), 21 P7_7/TA3IN/CLK3/IIO1_4/UD0B/UD1B/CAN0IN/~{CAN0WU} (io), 22 P7_6/TA3OUT/TxD3/IIO1_3/UD0A/UD1A/CAN0OUT (io), 23 P7_5/TA2IN/~{W}/IIO1_2/LIN0IN (io), 24 P7_4/TA2OUT/W/IIO1_1/LIN0OUT (io), 25 P7_3/TA1IN/~{V}/~{CTS}2/~{RTS}2/~{SS}2/~{SCS}2/IIO1_0 (io), 26 P7_2/TA1OUT/V/CLK2/SSCK2 (io), 27 P7_1/TB5IN/TA0IN/RxD2/SCL2/STxD2/SSI2/IIO1_7 (io), 28 P7_0/TA0OUT/TxD2/SDA2/SRxD2/SSO2/IIO1_6 (io), 29 P6_7/TxD1/SDA1/SRxD1/SSO1 (io), 30 P6_6/RxD1/SCL1/STxD1/SSI1 (io), 31 P6_5/CLK1/SSCK1 (io), 32 P6_4/~{CTS}1/~{RTS}1/~{SS}1/~{SCS}1 (io), 33 P6_3/TB5IN/TxD0/SDA0/SRxD0/SSO0 (io), 34 P6_2/TB2IN/RxD0/SCL0/STxD0/SSI0 (io), 35 P6_1/TB1IN/CLK0/SSCK0 (io), 36 P6_0/TB0IN/~{CTS}0/~{RTS}0/~{SS}0 (io), 37 P5_7/~{SCS}2/IIO0_7 (io), 38 P5_6/SSI2/IIO0_6 (io), 39 P5_5/SSCK2/IIO0_5 (io), 40 P5_4/SSO2/IIO0_4 (io), 41 P5_3/CLKOUT/IIO0_3 (io), 42 P5_2/IIO0_2 (io), 43 P5_1/IIO0_1 (io), 44 P5_0/IIO0_0 (io), 45 P4_7/~{SCS}1/IIO1_7/LIN1IN (io), 46 P4_6/SSI1/IIO1_6/LIN1OUT (io), 47 P4_5/SSCK1/IIO1_5/LIN0IN (io), 48 P4_4/SSO1/IIO1_4/LIN0OUT (io), 49 P4_3/TxD3/IIO1_3 (io), 50 P4_2/RxD3/IIO1_2 (io), 51 P4_1/CLK3/IIO1_1 (io), 52 P4_0/~{CTS}3/~{RTS}3/IIO1_0 (io), 53 P3_7/TA4IN/~{U}/TB1IN/~{CTS}4/~{RTS}4 (io), 54 P3_6/TA4OUT/U/TxD4 (io), 55 P3_5/TA2IN/~{W}/RxD4 (io), 56 P3_4/TA2OUT/W/CLK4 (io), 57 P3_3/TA1IN/~{V}/LIN1IN (io), 58 P3_2/TA1OUT/V/LIN1OUT (io), 59 P3_1/TA3OUT/UD0B/UD1B/LIN0IN (io), 61 P3_0/TA0OUT/UD0A/UD1A/LIN0OUT (io), 63 P2_7/AN2_7 (io), 64 P2_6/AN2_6 (io), 65 P2_5/AN2_5 (io), 66 P2_4/AN2_4 (io), 67 P2_3/AN2_3 (io), 68 P2_2/AN2_2 (io), 69 P2_1/AN2_1 (io), 70 P2_0/AN2_0 (io), 71 P1_7/~{INT}5/IIO0_7/IIO1_7 (io), 72 P1_6/~{INT}4/IIO0_6/IIO1_6 (io), 73 P1_5/~{INT}3/IIO0_5/IIO1_5 (io), 74 P1_4/TB0IN/IIO0_4/IIO1_4 (io), 75 P1_3/~{SCS}0/IIO0_3/IIO1_3 (io), 76 P1_2/SSI0/IIO0_2/IIO1_2 (io), 77 P1_1/SSCK0/IIO0_1/IIO1_1 (io), 78 P1_0/SSO0/IIO0_0/IIO1_0 (io), 79 P0_7/AN0_7 (io), 80 P0_6/AN0_6 (io), 81 P0_5/AN0_5 (io), 82 P0_4/AN0_4 (io), 83 P0_3/AN0_3 (io), 84 P0_2/AN0_2 (io), 85 P0_1/AN0_1 (io), 86 P0_0/AN0_0 (io), 87 P10_7/~{KI}3/AN_7 (io), 88 P10_6/~{KI}2/AN_6 (io), 89 P10_5/~{KI}1/AN_5 (io), 90 P10_4/~{KI}0/AN_4 (io), 91 P10_3/AN_3 (io), 92 P10_2/AN_2 (io), 93 P10_1/AN_1 (io), 95 P10_0/AN_0 (io), 96 VREF (in), 98 P9_7/TB2IN/RxD4/~{ADTRG} (io), 99 P9_6/TxD4/CAN1OUT/ANEX1 (io), 100 P9_5/CLK4/CAN1IN/~{CAN1WU}/ANEX0 (io)
part B pins: 12 VSS (power), 14 VCC (power), 60 VCC (power), 62 VSS (power), 94 AVSS (power), 97 AVCC / VCC (power)

## R5F6421GKFB
designator U?
Flash Memory R32C/100 Series, 121 Group MCU, 384K + 8K ROM, 24K RAM, 100-pin LQFP, Version K; Published: 28-Aug-2009; DatasheetVersion: Rev.0.50, Jul-2008; PackageVersion: Sep-2005; PackageReference: PLQP0100KB-A; Publisher: Altium Limited; PackageDescription: 100-Pin Plastic Low Profile QFP, 14 x 14 x 1.4 mm Body, 0.5 mm Pitch; Code_JEITA: P-LQFP100-14x14-0.50; Code_IPC: SQFP50P1600X1600-100; ComponentLink1Description: Manufacturer Link; ComponentLink1URL: http://sg.renesas.com/fmwk.jsp?cnt=m16c_family_landing.jsp&fp=/products/mpumcu/m16c_family/; ComponentLink2Description: Datasheet; ComponentLink2URL: http://documentation.renesas.com/eng/products/mpumcu/rej09b0477_r32c121hm.pdf; ComponentLink3Description: Packaging Specification; ComponentLink3URL: http://sg.renesas.com/media/products/common_info/package/pdf/ic/code/plqp0100kb_a.pdf
footprint PLQP0100KB-A_N (Shrink QFP, 100-Leads, Body 14x14mm, Pitch 0.5mm, IPC Medium Density)
footprint PLQP0100KB-A_L (Shrink QFP, 100-Leads, Body 14x14mm, Pitch 0.5mm, IPC High Density)
footprint PLQP0100KB-A_M (Shrink QFP, 100-Leads, Body 14x14mm, Pitch 0.5mm, IPC Low Density)
part A pins: 1 P9_4/TB4IN/~{CTS}4/~{RTS}4/DA1 (io), 2 P9_3/DA0/TB3IN (io), 3 VDC0, 4 P9_1 (io), 5 VDC1, 6 NSD (io), 7 CNVSS (in), 8 P8_7/XCIN (io), 9 P8_6/XCOUT (io), 10 ~{RESET} (in), 11 XOUT (out), 13 XIN (in), 15 P8_5/~{NMI} (io), 16 P8_4/~{INT}2 (io), 17 P8_3/~{INT}1/CAN0IN/~{CAN0WU}/CAN1IN/~{CAN1WU} (io), 18 P8_2/~{INT}0/CAN0OUT/CAN1OUT (io), 19 P8_1/TA4IN/~{U}/TA3OUT/~{CTS}3/~{RTS}3/IIO1_5/UD0B/UD1B/LIN1OUT (io), 20 P8_0/TA4OUT/U/RxD3/UD0A/UD1A/LIN1IN (io), 21 P7_7/TA3IN/CLK3/IIO1_4/UD0B/UD1B/CAN0IN/~{CAN0WU} (io), 22 P7_6/TA3OUT/TxD3/IIO1_3/UD0A/UD1A/CAN0OUT (io), 23 P7_5/TA2IN/~{W}/IIO1_2/LIN0IN (io), 24 P7_4/TA2OUT/W/IIO1_1/LIN0OUT (io), 25 P7_3/TA1IN/~{V}/~{CTS}2/~{RTS}2/~{SS}2/~{SCS}2/IIO1_0 (io), 26 P7_2/TA1OUT/V/CLK2/SSCK2 (io), 27 P7_1/TB5IN/TA0IN/RxD2/SCL2/STxD2/SSI2/IIO1_7 (io), 28 P7_0/TA0OUT/TxD2/SDA2/SRxD2/SSO2/IIO1_6 (io), 29 P6_7/TxD1/SDA1/SRxD1/SSO1 (io), 30 P6_6/RxD1/SCL1/STxD1/SSI1 (io), 31 P6_5/CLK1/SSCK1 (io), 32 P6_4/~{CTS}1/~{RTS}1/~{SS}1/~{SCS}1 (io), 33 P6_3/TB5IN/TxD0/SDA0/SRxD0/SSO0 (io), 34 P6_2/TB2IN/RxD0/SCL0/STxD0/SSI0 (io), 35 P6_1/TB1IN/CLK0/SSCK0 (io), 36 P6_0/TB0IN/~{CTS}0/~{RTS}0/~{SS}0 (io), 37 P5_7/~{SCS}2/IIO0_7 (io), 38 P5_6/SSI2/IIO0_6 (io), 39 P5_5/SSCK2/IIO0_5 (io), 40 P5_4/SSO2/IIO0_4 (io), 41 P5_3/CLKOUT/IIO0_3 (io), 42 P5_2/IIO0_2 (io), 43 P5_1/IIO0_1 (io), 44 P5_0/IIO0_0 (io), 45 P4_7/~{SCS}1/IIO1_7/LIN1IN (io), 46 P4_6/SSI1/IIO1_6/LIN1OUT (io), 47 P4_5/SSCK1/IIO1_5/LIN0IN (io), 48 P4_4/SSO1/IIO1_4/LIN0OUT (io), 49 P4_3/TxD3/IIO1_3 (io), 50 P4_2/RxD3/IIO1_2 (io), 51 P4_1/CLK3/IIO1_1 (io), 52 P4_0/~{CTS}3/~{RTS}3/IIO1_0 (io), 53 P3_7/TA4IN/~{U}/TB1IN/~{CTS}4/~{RTS}4 (io), 54 P3_6/TA4OUT/U/TxD4 (io), 55 P3_5/TA2IN/~{W}/RxD4 (io), 56 P3_4/TA2OUT/W/CLK4 (io), 57 P3_3/TA1IN/~{V}/LIN1IN (io), 58 P3_2/TA1OUT/V/LIN1OUT (io), 59 P3_1/TA3OUT/UD0B/UD1B/LIN0IN (io), 61 P3_0/TA0OUT/UD0A/UD1A/LIN0OUT (io), 63 P2_7/AN2_7 (io), 64 P2_6/AN2_6 (io), 65 P2_5/AN2_5 (io), 66 P2_4/AN2_4 (io), 67 P2_3/AN2_3 (io), 68 P2_2/AN2_2 (io), 69 P2_1/AN2_1 (io), 70 P2_0/AN2_0 (io), 71 P1_7/~{INT}5/IIO0_7/IIO1_7 (io), 72 P1_6/~{INT}4/IIO0_6/IIO1_6 (io), 73 P1_5/~{INT}3/IIO0_5/IIO1_5 (io), 74 P1_4/TB0IN/IIO0_4/IIO1_4 (io), 75 P1_3/~{SCS}0/IIO0_3/IIO1_3 (io), 76 P1_2/SSI0/IIO0_2/IIO1_2 (io), 77 P1_1/SSCK0/IIO0_1/IIO1_1 (io), 78 P1_0/SSO0/IIO0_0/IIO1_0 (io), 79 P0_7/AN0_7 (io), 80 P0_6/AN0_6 (io), 81 P0_5/AN0_5 (io), 82 P0_4/AN0_4 (io), 83 P0_3/AN0_3 (io), 84 P0_2/AN0_2 (io), 85 P0_1/AN0_1 (io), 86 P0_0/AN0_0 (io), 87 P10_7/~{KI}3/AN_7 (io), 88 P10_6/~{KI}2/AN_6 (io), 89 P10_5/~{KI}1/AN_5 (io), 90 P10_4/~{KI}0/AN_4 (io), 91 P10_3/AN_3 (io), 92 P10_2/AN_2 (io), 93 P10_1/AN_1 (io), 95 P10_0/AN_0 (io), 96 VREF (in), 98 P9_7/TB2IN/RxD4/~{ADTRG} (io), 99 P9_6/TxD4/CAN1OUT/ANEX1 (io), 100 P9_5/CLK4/CAN1IN/~{CAN1WU}/ANEX0 (io)
part B pins: 12 VSS (power), 14 VCC (power), 60 VCC (power), 62 VSS (power), 94 AVSS (power), 97 AVCC / VCC (power)

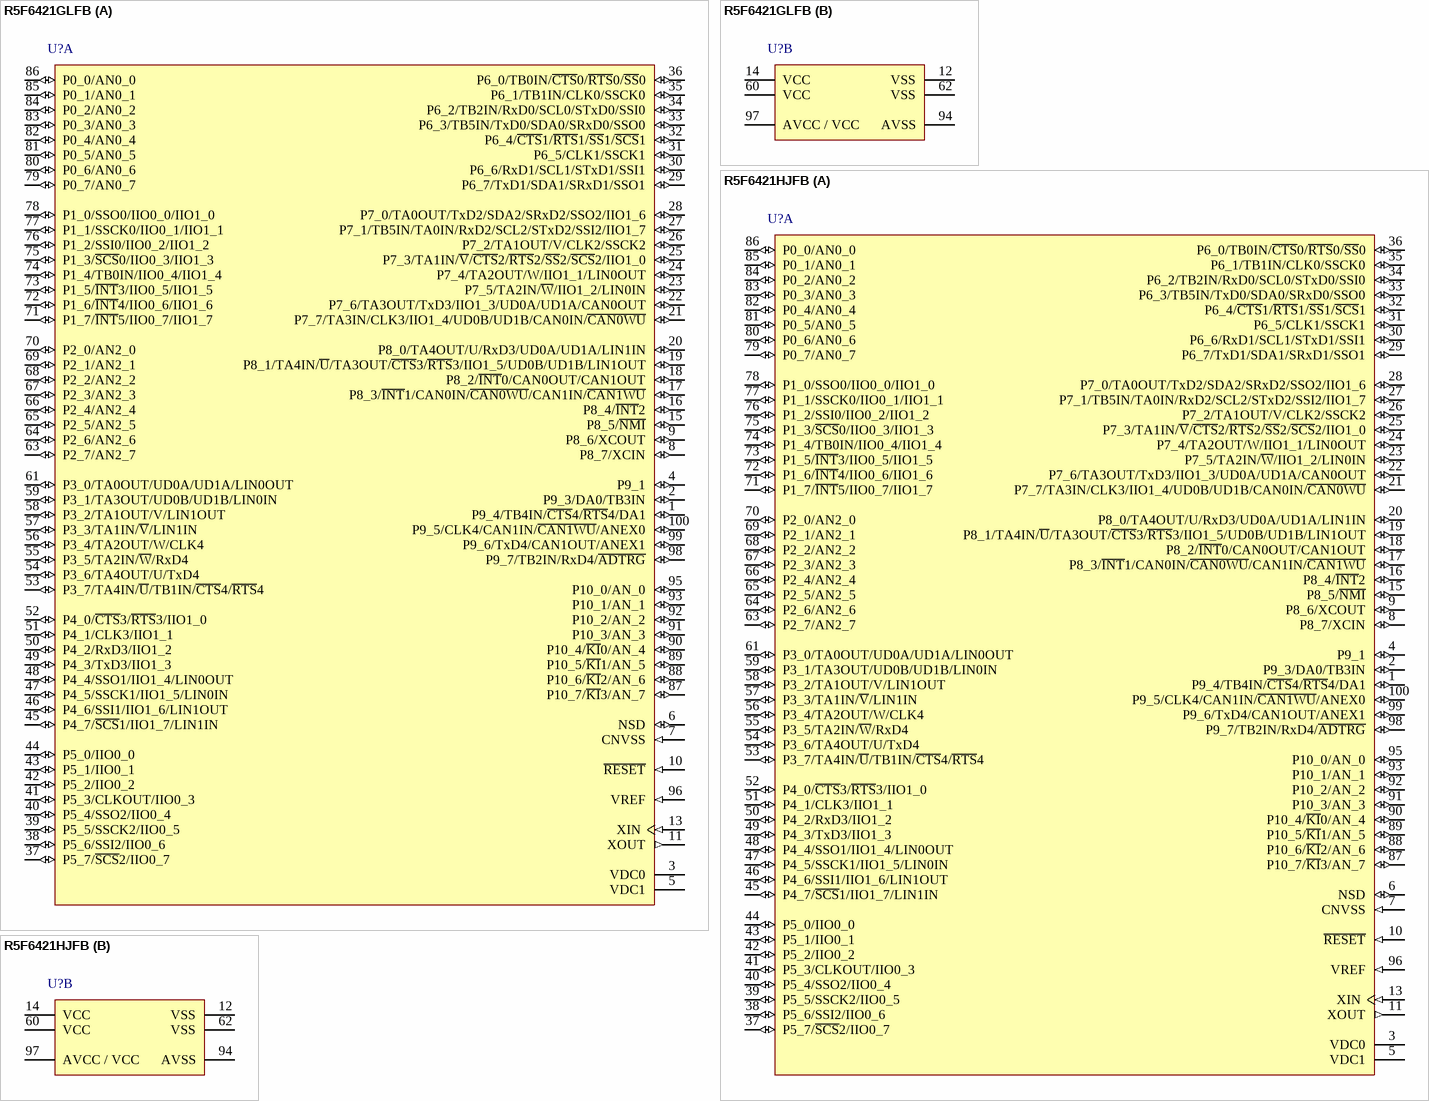
[diagram p11: symbols R5F6421GLFB to R5F6421HJFB]

## R5F6421GLFB
designator U?
Flash Memory R32C/100 Series, 121 Group MCU, 384K + 8K ROM, 24K RAM, 100-pin LQFP, Version L; Published: 28-Aug-2009; DatasheetVersion: Rev.0.50, Jul-2008; PackageVersion: Sep-2005; PackageReference: PLQP0100KB-A; Publisher: Altium Limited; PackageDescription: 100-Pin Plastic Low Profile QFP, 14 x 14 x 1.4 mm Body, 0.5 mm Pitch; Code_JEITA: P-LQFP100-14x14-0.50; Code_IPC: SQFP50P1600X1600-100; ComponentLink1Description: Manufacturer Link; ComponentLink1URL: http://sg.renesas.com/fmwk.jsp?cnt=m16c_family_landing.jsp&fp=/products/mpumcu/m16c_family/; ComponentLink2Description: Datasheet; ComponentLink2URL: http://documentation.renesas.com/eng/products/mpumcu/rej09b0477_r32c121hm.pdf; ComponentLink3Description: Packaging Specification; ComponentLink3URL: http://sg.renesas.com/media/products/common_info/package/pdf/ic/code/plqp0100kb_a.pdf
footprint PLQP0100KB-A_N (Shrink QFP, 100-Leads, Body 14x14mm, Pitch 0.5mm, IPC Medium Density)
footprint PLQP0100KB-A_L (Shrink QFP, 100-Leads, Body 14x14mm, Pitch 0.5mm, IPC High Density)
footprint PLQP0100KB-A_M (Shrink QFP, 100-Leads, Body 14x14mm, Pitch 0.5mm, IPC Low Density)
part A pins: 1 P9_4/TB4IN/~{CTS}4/~{RTS}4/DA1 (io), 2 P9_3/DA0/TB3IN (io), 3 VDC0, 4 P9_1 (io), 5 VDC1, 6 NSD (io), 7 CNVSS (in), 8 P8_7/XCIN (io), 9 P8_6/XCOUT (io), 10 ~{RESET} (in), 11 XOUT (out), 13 XIN (in), 15 P8_5/~{NMI} (io), 16 P8_4/~{INT}2 (io), 17 P8_3/~{INT}1/CAN0IN/~{CAN0WU}/CAN1IN/~{CAN1WU} (io), 18 P8_2/~{INT}0/CAN0OUT/CAN1OUT (io), 19 P8_1/TA4IN/~{U}/TA3OUT/~{CTS}3/~{RTS}3/IIO1_5/UD0B/UD1B/LIN1OUT (io), 20 P8_0/TA4OUT/U/RxD3/UD0A/UD1A/LIN1IN (io), 21 P7_7/TA3IN/CLK3/IIO1_4/UD0B/UD1B/CAN0IN/~{CAN0WU} (io), 22 P7_6/TA3OUT/TxD3/IIO1_3/UD0A/UD1A/CAN0OUT (io), 23 P7_5/TA2IN/~{W}/IIO1_2/LIN0IN (io), 24 P7_4/TA2OUT/W/IIO1_1/LIN0OUT (io), 25 P7_3/TA1IN/~{V}/~{CTS}2/~{RTS}2/~{SS}2/~{SCS}2/IIO1_0 (io), 26 P7_2/TA1OUT/V/CLK2/SSCK2 (io), 27 P7_1/TB5IN/TA0IN/RxD2/SCL2/STxD2/SSI2/IIO1_7 (io), 28 P7_0/TA0OUT/TxD2/SDA2/SRxD2/SSO2/IIO1_6 (io), 29 P6_7/TxD1/SDA1/SRxD1/SSO1 (io), 30 P6_6/RxD1/SCL1/STxD1/SSI1 (io), 31 P6_5/CLK1/SSCK1 (io), 32 P6_4/~{CTS}1/~{RTS}1/~{SS}1/~{SCS}1 (io), 33 P6_3/TB5IN/TxD0/SDA0/SRxD0/SSO0 (io), 34 P6_2/TB2IN/RxD0/SCL0/STxD0/SSI0 (io), 35 P6_1/TB1IN/CLK0/SSCK0 (io), 36 P6_0/TB0IN/~{CTS}0/~{RTS}0/~{SS}0 (io), 37 P5_7/~{SCS}2/IIO0_7 (io), 38 P5_6/SSI2/IIO0_6 (io), 39 P5_5/SSCK2/IIO0_5 (io), 40 P5_4/SSO2/IIO0_4 (io), 41 P5_3/CLKOUT/IIO0_3 (io), 42 P5_2/IIO0_2 (io), 43 P5_1/IIO0_1 (io), 44 P5_0/IIO0_0 (io), 45 P4_7/~{SCS}1/IIO1_7/LIN1IN (io), 46 P4_6/SSI1/IIO1_6/LIN1OUT (io), 47 P4_5/SSCK1/IIO1_5/LIN0IN (io), 48 P4_4/SSO1/IIO1_4/LIN0OUT (io), 49 P4_3/TxD3/IIO1_3 (io), 50 P4_2/RxD3/IIO1_2 (io), 51 P4_1/CLK3/IIO1_1 (io), 52 P4_0/~{CTS}3/~{RTS}3/IIO1_0 (io), 53 P3_7/TA4IN/~{U}/TB1IN/~{CTS}4/~{RTS}4 (io), 54 P3_6/TA4OUT/U/TxD4 (io), 55 P3_5/TA2IN/~{W}/RxD4 (io), 56 P3_4/TA2OUT/W/CLK4 (io), 57 P3_3/TA1IN/~{V}/LIN1IN (io), 58 P3_2/TA1OUT/V/LIN1OUT (io), 59 P3_1/TA3OUT/UD0B/UD1B/LIN0IN (io), 61 P3_0/TA0OUT/UD0A/UD1A/LIN0OUT (io), 63 P2_7/AN2_7 (io), 64 P2_6/AN2_6 (io), 65 P2_5/AN2_5 (io), 66 P2_4/AN2_4 (io), 67 P2_3/AN2_3 (io), 68 P2_2/AN2_2 (io), 69 P2_1/AN2_1 (io), 70 P2_0/AN2_0 (io), 71 P1_7/~{INT}5/IIO0_7/IIO1_7 (io), 72 P1_6/~{INT}4/IIO0_6/IIO1_6 (io), 73 P1_5/~{INT}3/IIO0_5/IIO1_5 (io), 74 P1_4/TB0IN/IIO0_4/IIO1_4 (io), 75 P1_3/~{SCS}0/IIO0_3/IIO1_3 (io), 76 P1_2/SSI0/IIO0_2/IIO1_2 (io), 77 P1_1/SSCK0/IIO0_1/IIO1_1 (io), 78 P1_0/SSO0/IIO0_0/IIO1_0 (io), 79 P0_7/AN0_7 (io), 80 P0_6/AN0_6 (io), 81 P0_5/AN0_5 (io), 82 P0_4/AN0_4 (io), 83 P0_3/AN0_3 (io), 84 P0_2/AN0_2 (io), 85 P0_1/AN0_1 (io), 86 P0_0/AN0_0 (io), 87 P10_7/~{KI}3/AN_7 (io), 88 P10_6/~{KI}2/AN_6 (io), 89 P10_5/~{KI}1/AN_5 (io), 90 P10_4/~{KI}0/AN_4 (io), 91 P10_3/AN_3 (io), 92 P10_2/AN_2 (io), 93 P10_1/AN_1 (io), 95 P10_0/AN_0 (io), 96 VREF (in), 98 P9_7/TB2IN/RxD4/~{ADTRG} (io), 99 P9_6/TxD4/CAN1OUT/ANEX1 (io), 100 P9_5/CLK4/CAN1IN/~{CAN1WU}/ANEX0 (io)
part B pins: 12 VSS (power), 14 VCC (power), 60 VCC (power), 62 VSS (power), 94 AVSS (power), 97 AVCC / VCC (power)

## R5F6421HJFB
designator U?
Flash Memory R32C/100 Series, 121 Group MCU, 512K + 8K ROM, 32K RAM, 100-pin LQFP, Version J; Published: 28-Aug-2009; DatasheetVersion: Rev.0.50, Jul-2008; PackageVersion: Sep-2005; PackageReference: PLQP0100KB-A; Publisher: Altium Limited; PackageDescription: 100-Pin Plastic Low Profile QFP, 14 x 14 x 1.4 mm Body, 0.5 mm Pitch; Code_JEITA: P-LQFP100-14x14-0.50; Code_IPC: SQFP50P1600X1600-100; ComponentLink1Description: Manufacturer Link; ComponentLink1URL: http://sg.renesas.com/fmwk.jsp?cnt=m16c_family_landing.jsp&fp=/products/mpumcu/m16c_family/; ComponentLink2Description: Datasheet; ComponentLink2URL: http://documentation.renesas.com/eng/products/mpumcu/rej09b0477_r32c121hm.pdf; ComponentLink3Description: Packaging Specification; ComponentLink3URL: http://sg.renesas.com/media/products/common_info/package/pdf/ic/code/plqp0100kb_a.pdf
footprint PLQP0100KB-A_N (Shrink QFP, 100-Leads, Body 14x14mm, Pitch 0.5mm, IPC Medium Density)
footprint PLQP0100KB-A_L (Shrink QFP, 100-Leads, Body 14x14mm, Pitch 0.5mm, IPC High Density)
footprint PLQP0100KB-A_M (Shrink QFP, 100-Leads, Body 14x14mm, Pitch 0.5mm, IPC Low Density)
part A pins: 1 P9_4/TB4IN/~{CTS}4/~{RTS}4/DA1 (io), 2 P9_3/DA0/TB3IN (io), 3 VDC0, 4 P9_1 (io), 5 VDC1, 6 NSD (io), 7 CNVSS (in), 8 P8_7/XCIN (io), 9 P8_6/XCOUT (io), 10 ~{RESET} (in), 11 XOUT (out), 13 XIN (in), 15 P8_5/~{NMI} (io), 16 P8_4/~{INT}2 (io), 17 P8_3/~{INT}1/CAN0IN/~{CAN0WU}/CAN1IN/~{CAN1WU} (io), 18 P8_2/~{INT}0/CAN0OUT/CAN1OUT (io), 19 P8_1/TA4IN/~{U}/TA3OUT/~{CTS}3/~{RTS}3/IIO1_5/UD0B/UD1B/LIN1OUT (io), 20 P8_0/TA4OUT/U/RxD3/UD0A/UD1A/LIN1IN (io), 21 P7_7/TA3IN/CLK3/IIO1_4/UD0B/UD1B/CAN0IN/~{CAN0WU} (io), 22 P7_6/TA3OUT/TxD3/IIO1_3/UD0A/UD1A/CAN0OUT (io), 23 P7_5/TA2IN/~{W}/IIO1_2/LIN0IN (io), 24 P7_4/TA2OUT/W/IIO1_1/LIN0OUT (io), 25 P7_3/TA1IN/~{V}/~{CTS}2/~{RTS}2/~{SS}2/~{SCS}2/IIO1_0 (io), 26 P7_2/TA1OUT/V/CLK2/SSCK2 (io), 27 P7_1/TB5IN/TA0IN/RxD2/SCL2/STxD2/SSI2/IIO1_7 (io), 28 P7_0/TA0OUT/TxD2/SDA2/SRxD2/SSO2/IIO1_6 (io), 29 P6_7/TxD1/SDA1/SRxD1/SSO1 (io), 30 P6_6/RxD1/SCL1/STxD1/SSI1 (io), 31 P6_5/CLK1/SSCK1 (io), 32 P6_4/~{CTS}1/~{RTS}1/~{SS}1/~{SCS}1 (io), 33 P6_3/TB5IN/TxD0/SDA0/SRxD0/SSO0 (io), 34 P6_2/TB2IN/RxD0/SCL0/STxD0/SSI0 (io), 35 P6_1/TB1IN/CLK0/SSCK0 (io), 36 P6_0/TB0IN/~{CTS}0/~{RTS}0/~{SS}0 (io), 37 P5_7/~{SCS}2/IIO0_7 (io), 38 P5_6/SSI2/IIO0_6 (io), 39 P5_5/SSCK2/IIO0_5 (io), 40 P5_4/SSO2/IIO0_4 (io), 41 P5_3/CLKOUT/IIO0_3 (io), 42 P5_2/IIO0_2 (io), 43 P5_1/IIO0_1 (io), 44 P5_0/IIO0_0 (io), 45 P4_7/~{SCS}1/IIO1_7/LIN1IN (io), 46 P4_6/SSI1/IIO1_6/LIN1OUT (io), 47 P4_5/SSCK1/IIO1_5/LIN0IN (io), 48 P4_4/SSO1/IIO1_4/LIN0OUT (io), 49 P4_3/TxD3/IIO1_3 (io), 50 P4_2/RxD3/IIO1_2 (io), 51 P4_1/CLK3/IIO1_1 (io), 52 P4_0/~{CTS}3/~{RTS}3/IIO1_0 (io), 53 P3_7/TA4IN/~{U}/TB1IN/~{CTS}4/~{RTS}4 (io), 54 P3_6/TA4OUT/U/TxD4 (io), 55 P3_5/TA2IN/~{W}/RxD4 (io), 56 P3_4/TA2OUT/W/CLK4 (io), 57 P3_3/TA1IN/~{V}/LIN1IN (io), 58 P3_2/TA1OUT/V/LIN1OUT (io), 59 P3_1/TA3OUT/UD0B/UD1B/LIN0IN (io), 61 P3_0/TA0OUT/UD0A/UD1A/LIN0OUT (io), 63 P2_7/AN2_7 (io), 64 P2_6/AN2_6 (io), 65 P2_5/AN2_5 (io), 66 P2_4/AN2_4 (io), 67 P2_3/AN2_3 (io), 68 P2_2/AN2_2 (io), 69 P2_1/AN2_1 (io), 70 P2_0/AN2_0 (io), 71 P1_7/~{INT}5/IIO0_7/IIO1_7 (io), 72 P1_6/~{INT}4/IIO0_6/IIO1_6 (io), 73 P1_5/~{INT}3/IIO0_5/IIO1_5 (io), 74 P1_4/TB0IN/IIO0_4/IIO1_4 (io), 75 P1_3/~{SCS}0/IIO0_3/IIO1_3 (io), 76 P1_2/SSI0/IIO0_2/IIO1_2 (io), 77 P1_1/SSCK0/IIO0_1/IIO1_1 (io), 78 P1_0/SSO0/IIO0_0/IIO1_0 (io), 79 P0_7/AN0_7 (io), 80 P0_6/AN0_6 (io), 81 P0_5/AN0_5 (io), 82 P0_4/AN0_4 (io), 83 P0_3/AN0_3 (io), 84 P0_2/AN0_2 (io), 85 P0_1/AN0_1 (io), 86 P0_0/AN0_0 (io), 87 P10_7/~{KI}3/AN_7 (io), 88 P10_6/~{KI}2/AN_6 (io), 89 P10_5/~{KI}1/AN_5 (io), 90 P10_4/~{KI}0/AN_4 (io), 91 P10_3/AN_3 (io), 92 P10_2/AN_2 (io), 93 P10_1/AN_1 (io), 95 P10_0/AN_0 (io), 96 VREF (in), 98 P9_7/TB2IN/RxD4/~{ADTRG} (io), 99 P9_6/TxD4/CAN1OUT/ANEX1 (io), 100 P9_5/CLK4/CAN1IN/~{CAN1WU}/ANEX0 (io)
part B pins: 12 VSS (power), 14 VCC (power), 60 VCC (power), 62 VSS (power), 94 AVSS (power), 97 AVCC / VCC (power)

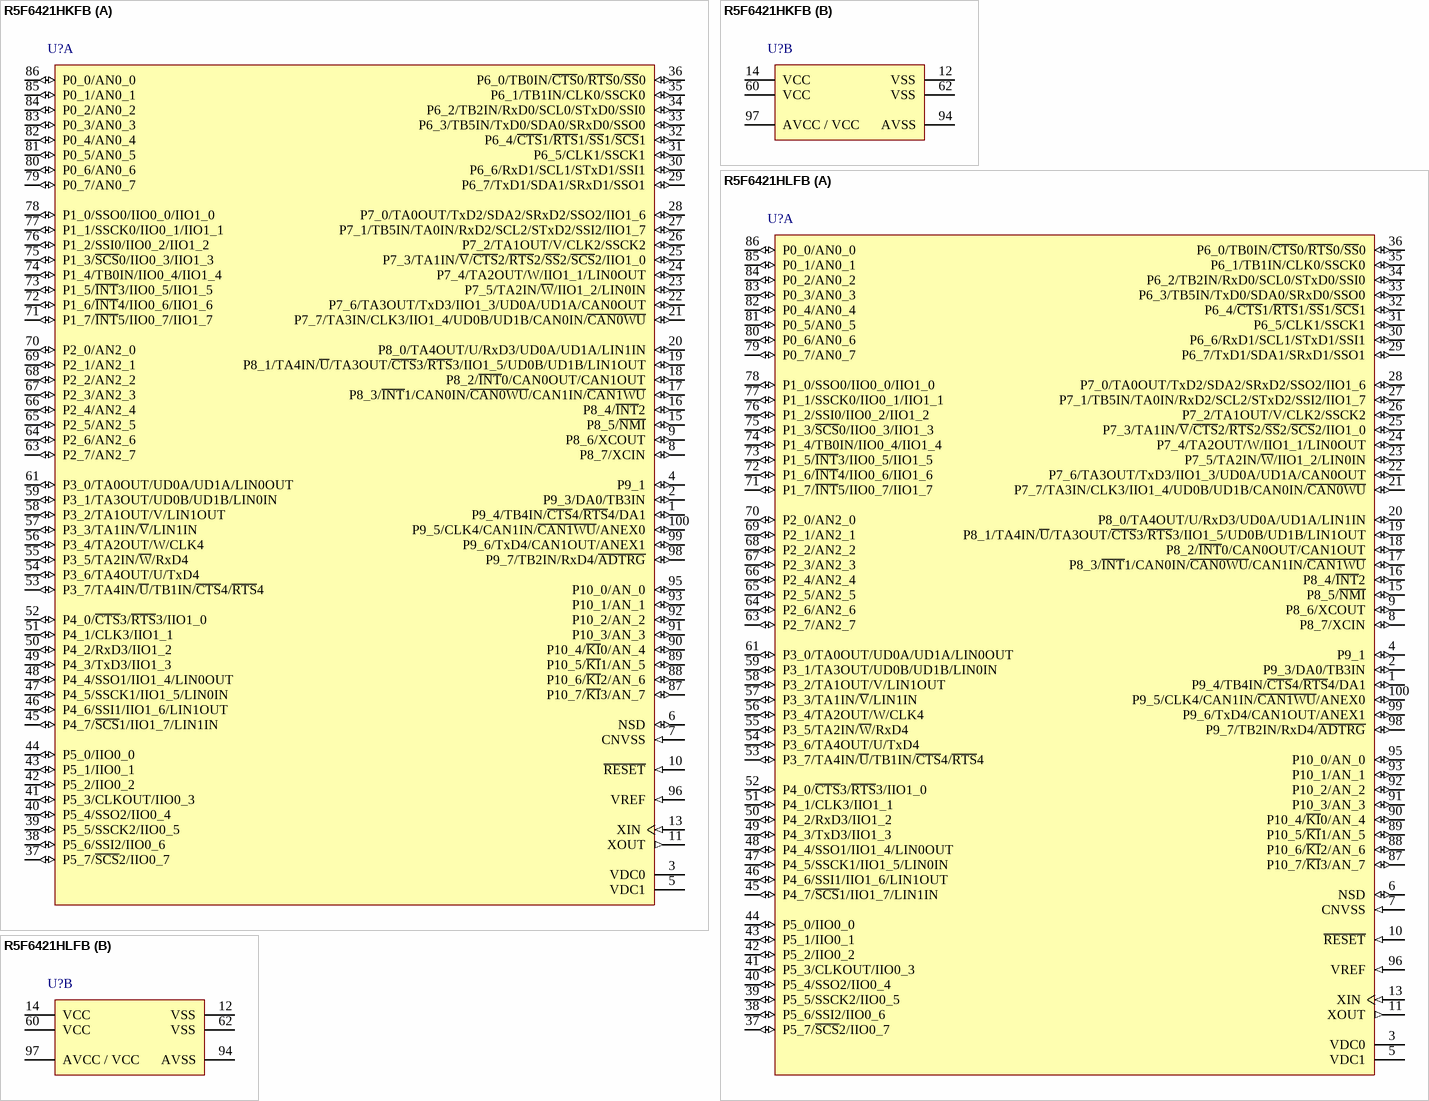
[diagram p12: symbols R5F6421HKFB to R5F6421HLFB]

## R5F6421HKFB
designator U?
Flash Memory R32C/100 Series, 121 Group MCU, 512K + 8K ROM, 32K RAM, 100-pin LQFP, Version K; Published: 28-Aug-2009; DatasheetVersion: Rev.0.50, Jul-2008; PackageVersion: Sep-2005; PackageReference: PLQP0100KB-A; Publisher: Altium Limited; PackageDescription: 100-Pin Plastic Low Profile QFP, 14 x 14 x 1.4 mm Body, 0.5 mm Pitch; Code_JEITA: P-LQFP100-14x14-0.50; Code_IPC: SQFP50P1600X1600-100; ComponentLink1Description: Manufacturer Link; ComponentLink1URL: http://sg.renesas.com/fmwk.jsp?cnt=m16c_family_landing.jsp&fp=/products/mpumcu/m16c_family/; ComponentLink2Description: Datasheet; ComponentLink2URL: http://documentation.renesas.com/eng/products/mpumcu/rej09b0477_r32c121hm.pdf; ComponentLink3Description: Packaging Specification; ComponentLink3URL: http://sg.renesas.com/media/products/common_info/package/pdf/ic/code/plqp0100kb_a.pdf
footprint PLQP0100KB-A_N (Shrink QFP, 100-Leads, Body 14x14mm, Pitch 0.5mm, IPC Medium Density)
footprint PLQP0100KB-A_L (Shrink QFP, 100-Leads, Body 14x14mm, Pitch 0.5mm, IPC High Density)
footprint PLQP0100KB-A_M (Shrink QFP, 100-Leads, Body 14x14mm, Pitch 0.5mm, IPC Low Density)
part A pins: 1 P9_4/TB4IN/~{CTS}4/~{RTS}4/DA1 (io), 2 P9_3/DA0/TB3IN (io), 3 VDC0, 4 P9_1 (io), 5 VDC1, 6 NSD (io), 7 CNVSS (in), 8 P8_7/XCIN (io), 9 P8_6/XCOUT (io), 10 ~{RESET} (in), 11 XOUT (out), 13 XIN (in), 15 P8_5/~{NMI} (io), 16 P8_4/~{INT}2 (io), 17 P8_3/~{INT}1/CAN0IN/~{CAN0WU}/CAN1IN/~{CAN1WU} (io), 18 P8_2/~{INT}0/CAN0OUT/CAN1OUT (io), 19 P8_1/TA4IN/~{U}/TA3OUT/~{CTS}3/~{RTS}3/IIO1_5/UD0B/UD1B/LIN1OUT (io), 20 P8_0/TA4OUT/U/RxD3/UD0A/UD1A/LIN1IN (io), 21 P7_7/TA3IN/CLK3/IIO1_4/UD0B/UD1B/CAN0IN/~{CAN0WU} (io), 22 P7_6/TA3OUT/TxD3/IIO1_3/UD0A/UD1A/CAN0OUT (io), 23 P7_5/TA2IN/~{W}/IIO1_2/LIN0IN (io), 24 P7_4/TA2OUT/W/IIO1_1/LIN0OUT (io), 25 P7_3/TA1IN/~{V}/~{CTS}2/~{RTS}2/~{SS}2/~{SCS}2/IIO1_0 (io), 26 P7_2/TA1OUT/V/CLK2/SSCK2 (io), 27 P7_1/TB5IN/TA0IN/RxD2/SCL2/STxD2/SSI2/IIO1_7 (io), 28 P7_0/TA0OUT/TxD2/SDA2/SRxD2/SSO2/IIO1_6 (io), 29 P6_7/TxD1/SDA1/SRxD1/SSO1 (io), 30 P6_6/RxD1/SCL1/STxD1/SSI1 (io), 31 P6_5/CLK1/SSCK1 (io), 32 P6_4/~{CTS}1/~{RTS}1/~{SS}1/~{SCS}1 (io), 33 P6_3/TB5IN/TxD0/SDA0/SRxD0/SSO0 (io), 34 P6_2/TB2IN/RxD0/SCL0/STxD0/SSI0 (io), 35 P6_1/TB1IN/CLK0/SSCK0 (io), 36 P6_0/TB0IN/~{CTS}0/~{RTS}0/~{SS}0 (io), 37 P5_7/~{SCS}2/IIO0_7 (io), 38 P5_6/SSI2/IIO0_6 (io), 39 P5_5/SSCK2/IIO0_5 (io), 40 P5_4/SSO2/IIO0_4 (io), 41 P5_3/CLKOUT/IIO0_3 (io), 42 P5_2/IIO0_2 (io), 43 P5_1/IIO0_1 (io), 44 P5_0/IIO0_0 (io), 45 P4_7/~{SCS}1/IIO1_7/LIN1IN (io), 46 P4_6/SSI1/IIO1_6/LIN1OUT (io), 47 P4_5/SSCK1/IIO1_5/LIN0IN (io), 48 P4_4/SSO1/IIO1_4/LIN0OUT (io), 49 P4_3/TxD3/IIO1_3 (io), 50 P4_2/RxD3/IIO1_2 (io), 51 P4_1/CLK3/IIO1_1 (io), 52 P4_0/~{CTS}3/~{RTS}3/IIO1_0 (io), 53 P3_7/TA4IN/~{U}/TB1IN/~{CTS}4/~{RTS}4 (io), 54 P3_6/TA4OUT/U/TxD4 (io), 55 P3_5/TA2IN/~{W}/RxD4 (io), 56 P3_4/TA2OUT/W/CLK4 (io), 57 P3_3/TA1IN/~{V}/LIN1IN (io), 58 P3_2/TA1OUT/V/LIN1OUT (io), 59 P3_1/TA3OUT/UD0B/UD1B/LIN0IN (io), 61 P3_0/TA0OUT/UD0A/UD1A/LIN0OUT (io), 63 P2_7/AN2_7 (io), 64 P2_6/AN2_6 (io), 65 P2_5/AN2_5 (io), 66 P2_4/AN2_4 (io), 67 P2_3/AN2_3 (io), 68 P2_2/AN2_2 (io), 69 P2_1/AN2_1 (io), 70 P2_0/AN2_0 (io), 71 P1_7/~{INT}5/IIO0_7/IIO1_7 (io), 72 P1_6/~{INT}4/IIO0_6/IIO1_6 (io), 73 P1_5/~{INT}3/IIO0_5/IIO1_5 (io), 74 P1_4/TB0IN/IIO0_4/IIO1_4 (io), 75 P1_3/~{SCS}0/IIO0_3/IIO1_3 (io), 76 P1_2/SSI0/IIO0_2/IIO1_2 (io), 77 P1_1/SSCK0/IIO0_1/IIO1_1 (io), 78 P1_0/SSO0/IIO0_0/IIO1_0 (io), 79 P0_7/AN0_7 (io), 80 P0_6/AN0_6 (io), 81 P0_5/AN0_5 (io), 82 P0_4/AN0_4 (io), 83 P0_3/AN0_3 (io), 84 P0_2/AN0_2 (io), 85 P0_1/AN0_1 (io), 86 P0_0/AN0_0 (io), 87 P10_7/~{KI}3/AN_7 (io), 88 P10_6/~{KI}2/AN_6 (io), 89 P10_5/~{KI}1/AN_5 (io), 90 P10_4/~{KI}0/AN_4 (io), 91 P10_3/AN_3 (io), 92 P10_2/AN_2 (io), 93 P10_1/AN_1 (io), 95 P10_0/AN_0 (io), 96 VREF (in), 98 P9_7/TB2IN/RxD4/~{ADTRG} (io), 99 P9_6/TxD4/CAN1OUT/ANEX1 (io), 100 P9_5/CLK4/CAN1IN/~{CAN1WU}/ANEX0 (io)
part B pins: 12 VSS (power), 14 VCC (power), 60 VCC (power), 62 VSS (power), 94 AVSS (power), 97 AVCC / VCC (power)

## R5F6421HLFB
designator U?
Flash Memory R32C/100 Series, 121 Group MCU, 512K + 8K ROM, 32K RAM, 100-pin LQFP, Version L; Published: 28-Aug-2009; DatasheetVersion: Rev.0.50, Jul-2008; PackageVersion: Sep-2005; PackageReference: PLQP0100KB-A; Publisher: Altium Limited; PackageDescription: 100-Pin Plastic Low Profile QFP, 14 x 14 x 1.4 mm Body, 0.5 mm Pitch; Code_JEITA: P-LQFP100-14x14-0.50; Code_IPC: SQFP50P1600X1600-100; ComponentLink1Description: Manufacturer Link; ComponentLink1URL: http://sg.renesas.com/fmwk.jsp?cnt=m16c_family_landing.jsp&fp=/products/mpumcu/m16c_family/; ComponentLink2Description: Datasheet; ComponentLink2URL: http://documentation.renesas.com/eng/products/mpumcu/rej09b0477_r32c121hm.pdf; ComponentLink3Description: Packaging Specification; ComponentLink3URL: http://sg.renesas.com/media/products/common_info/package/pdf/ic/code/plqp0100kb_a.pdf
footprint PLQP0100KB-A_N (Shrink QFP, 100-Leads, Body 14x14mm, Pitch 0.5mm, IPC Medium Density)
footprint PLQP0100KB-A_L (Shrink QFP, 100-Leads, Body 14x14mm, Pitch 0.5mm, IPC High Density)
footprint PLQP0100KB-A_M (Shrink QFP, 100-Leads, Body 14x14mm, Pitch 0.5mm, IPC Low Density)
part A pins: 1 P9_4/TB4IN/~{CTS}4/~{RTS}4/DA1 (io), 2 P9_3/DA0/TB3IN (io), 3 VDC0, 4 P9_1 (io), 5 VDC1, 6 NSD (io), 7 CNVSS (in), 8 P8_7/XCIN (io), 9 P8_6/XCOUT (io), 10 ~{RESET} (in), 11 XOUT (out), 13 XIN (in), 15 P8_5/~{NMI} (io), 16 P8_4/~{INT}2 (io), 17 P8_3/~{INT}1/CAN0IN/~{CAN0WU}/CAN1IN/~{CAN1WU} (io), 18 P8_2/~{INT}0/CAN0OUT/CAN1OUT (io), 19 P8_1/TA4IN/~{U}/TA3OUT/~{CTS}3/~{RTS}3/IIO1_5/UD0B/UD1B/LIN1OUT (io), 20 P8_0/TA4OUT/U/RxD3/UD0A/UD1A/LIN1IN (io), 21 P7_7/TA3IN/CLK3/IIO1_4/UD0B/UD1B/CAN0IN/~{CAN0WU} (io), 22 P7_6/TA3OUT/TxD3/IIO1_3/UD0A/UD1A/CAN0OUT (io), 23 P7_5/TA2IN/~{W}/IIO1_2/LIN0IN (io), 24 P7_4/TA2OUT/W/IIO1_1/LIN0OUT (io), 25 P7_3/TA1IN/~{V}/~{CTS}2/~{RTS}2/~{SS}2/~{SCS}2/IIO1_0 (io), 26 P7_2/TA1OUT/V/CLK2/SSCK2 (io), 27 P7_1/TB5IN/TA0IN/RxD2/SCL2/STxD2/SSI2/IIO1_7 (io), 28 P7_0/TA0OUT/TxD2/SDA2/SRxD2/SSO2/IIO1_6 (io), 29 P6_7/TxD1/SDA1/SRxD1/SSO1 (io), 30 P6_6/RxD1/SCL1/STxD1/SSI1 (io), 31 P6_5/CLK1/SSCK1 (io), 32 P6_4/~{CTS}1/~{RTS}1/~{SS}1/~{SCS}1 (io), 33 P6_3/TB5IN/TxD0/SDA0/SRxD0/SSO0 (io), 34 P6_2/TB2IN/RxD0/SCL0/STxD0/SSI0 (io), 35 P6_1/TB1IN/CLK0/SSCK0 (io), 36 P6_0/TB0IN/~{CTS}0/~{RTS}0/~{SS}0 (io), 37 P5_7/~{SCS}2/IIO0_7 (io), 38 P5_6/SSI2/IIO0_6 (io), 39 P5_5/SSCK2/IIO0_5 (io), 40 P5_4/SSO2/IIO0_4 (io), 41 P5_3/CLKOUT/IIO0_3 (io), 42 P5_2/IIO0_2 (io), 43 P5_1/IIO0_1 (io), 44 P5_0/IIO0_0 (io), 45 P4_7/~{SCS}1/IIO1_7/LIN1IN (io), 46 P4_6/SSI1/IIO1_6/LIN1OUT (io), 47 P4_5/SSCK1/IIO1_5/LIN0IN (io), 48 P4_4/SSO1/IIO1_4/LIN0OUT (io), 49 P4_3/TxD3/IIO1_3 (io), 50 P4_2/RxD3/IIO1_2 (io), 51 P4_1/CLK3/IIO1_1 (io), 52 P4_0/~{CTS}3/~{RTS}3/IIO1_0 (io), 53 P3_7/TA4IN/~{U}/TB1IN/~{CTS}4/~{RTS}4 (io), 54 P3_6/TA4OUT/U/TxD4 (io), 55 P3_5/TA2IN/~{W}/RxD4 (io), 56 P3_4/TA2OUT/W/CLK4 (io), 57 P3_3/TA1IN/~{V}/LIN1IN (io), 58 P3_2/TA1OUT/V/LIN1OUT (io), 59 P3_1/TA3OUT/UD0B/UD1B/LIN0IN (io), 61 P3_0/TA0OUT/UD0A/UD1A/LIN0OUT (io), 63 P2_7/AN2_7 (io), 64 P2_6/AN2_6 (io), 65 P2_5/AN2_5 (io), 66 P2_4/AN2_4 (io), 67 P2_3/AN2_3 (io), 68 P2_2/AN2_2 (io), 69 P2_1/AN2_1 (io), 70 P2_0/AN2_0 (io), 71 P1_7/~{INT}5/IIO0_7/IIO1_7 (io), 72 P1_6/~{INT}4/IIO0_6/IIO1_6 (io), 73 P1_5/~{INT}3/IIO0_5/IIO1_5 (io), 74 P1_4/TB0IN/IIO0_4/IIO1_4 (io), 75 P1_3/~{SCS}0/IIO0_3/IIO1_3 (io), 76 P1_2/SSI0/IIO0_2/IIO1_2 (io), 77 P1_1/SSCK0/IIO0_1/IIO1_1 (io), 78 P1_0/SSO0/IIO0_0/IIO1_0 (io), 79 P0_7/AN0_7 (io), 80 P0_6/AN0_6 (io), 81 P0_5/AN0_5 (io), 82 P0_4/AN0_4 (io), 83 P0_3/AN0_3 (io), 84 P0_2/AN0_2 (io), 85 P0_1/AN0_1 (io), 86 P0_0/AN0_0 (io), 87 P10_7/~{KI}3/AN_7 (io), 88 P10_6/~{KI}2/AN_6 (io), 89 P10_5/~{KI}1/AN_5 (io), 90 P10_4/~{KI}0/AN_4 (io), 91 P10_3/AN_3 (io), 92 P10_2/AN_2 (io), 93 P10_1/AN_1 (io), 95 P10_0/AN_0 (io), 96 VREF (in), 98 P9_7/TB2IN/RxD4/~{ADTRG} (io), 99 P9_6/TxD4/CAN1OUT/ANEX1 (io), 100 P9_5/CLK4/CAN1IN/~{CAN1WU}/ANEX0 (io)
part B pins: 12 VSS (power), 14 VCC (power), 60 VCC (power), 62 VSS (power), 94 AVSS (power), 97 AVCC / VCC (power)

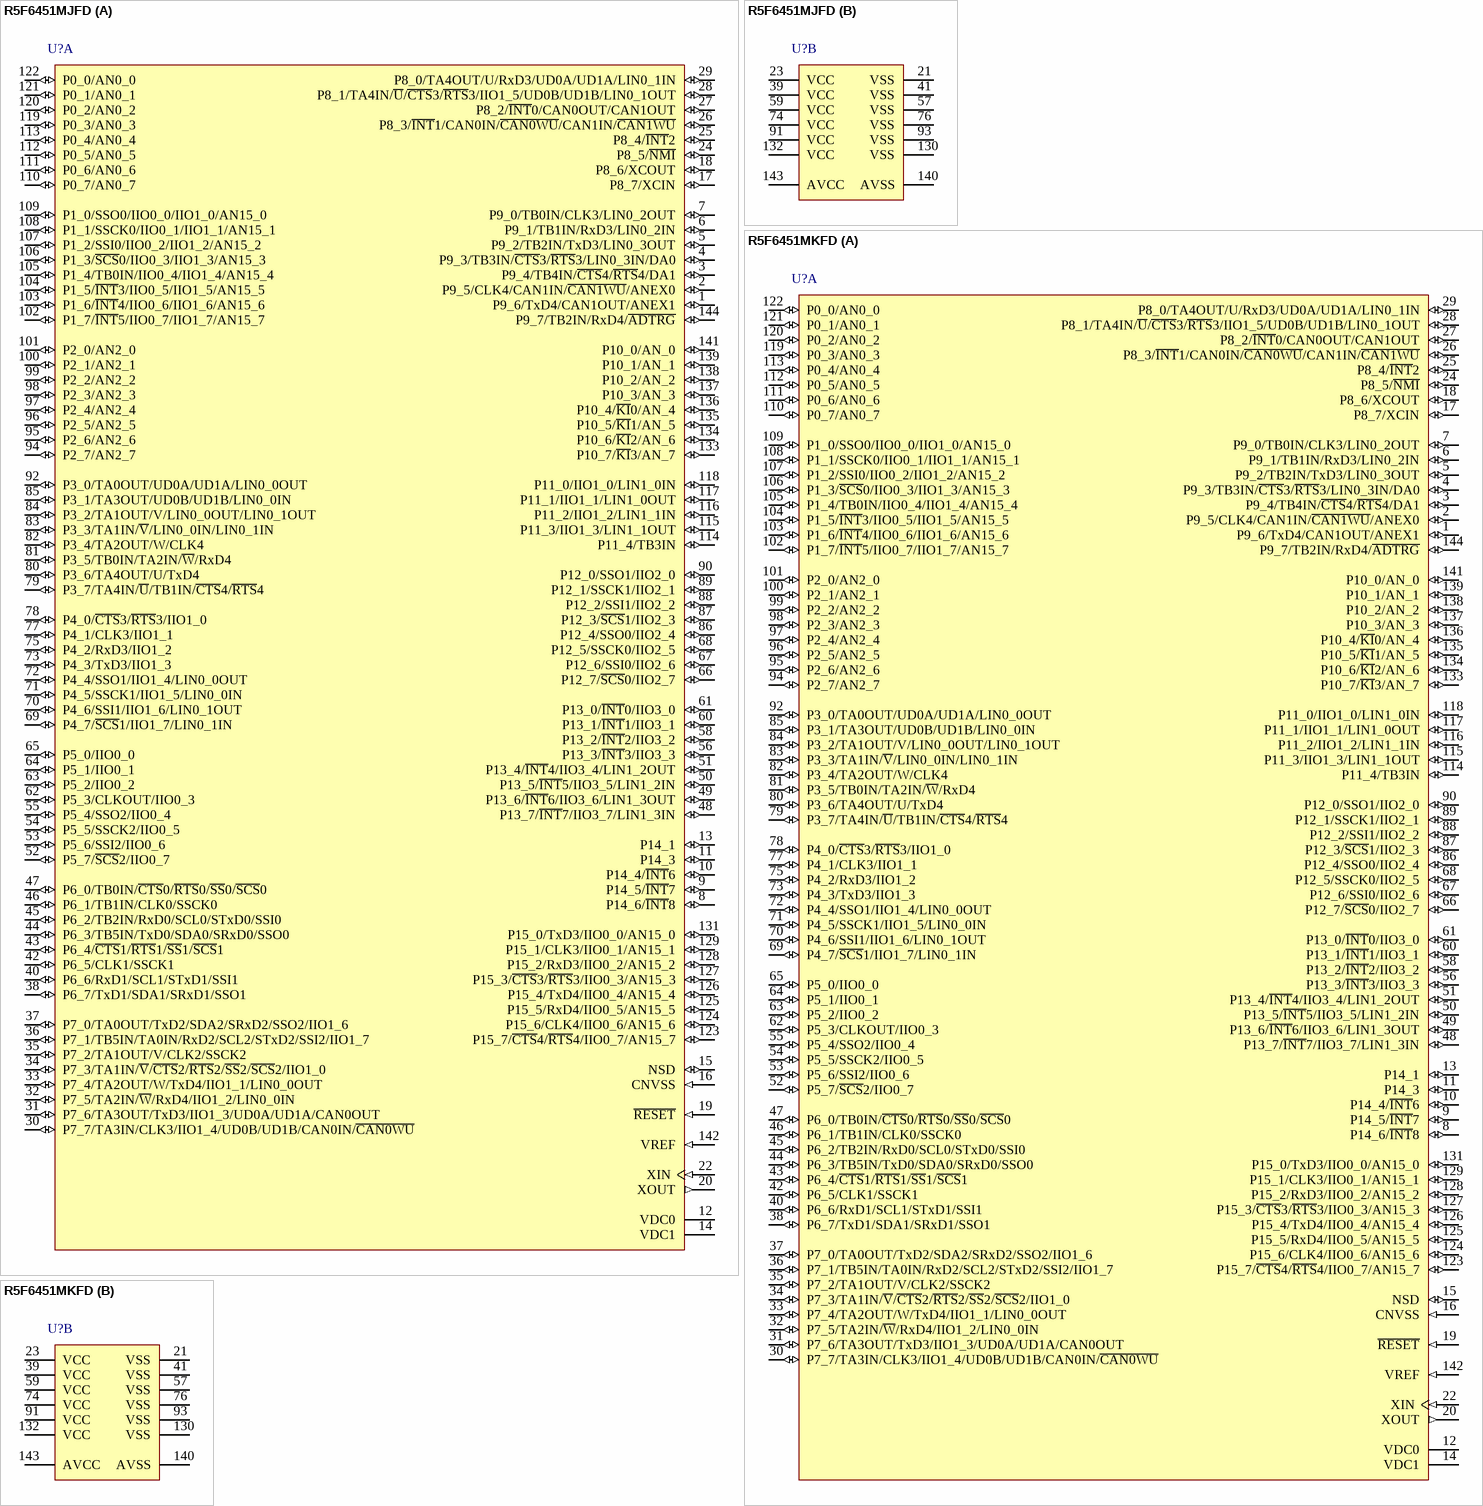
[diagram p13: symbols R5F6451MJFD to R5F6451MKFD]